# Altium schematic symbol library MY.SchLib: 652 symbols (part 1 of 7)
Pins are listed as number, name and electrical type; pins without a type are passive.

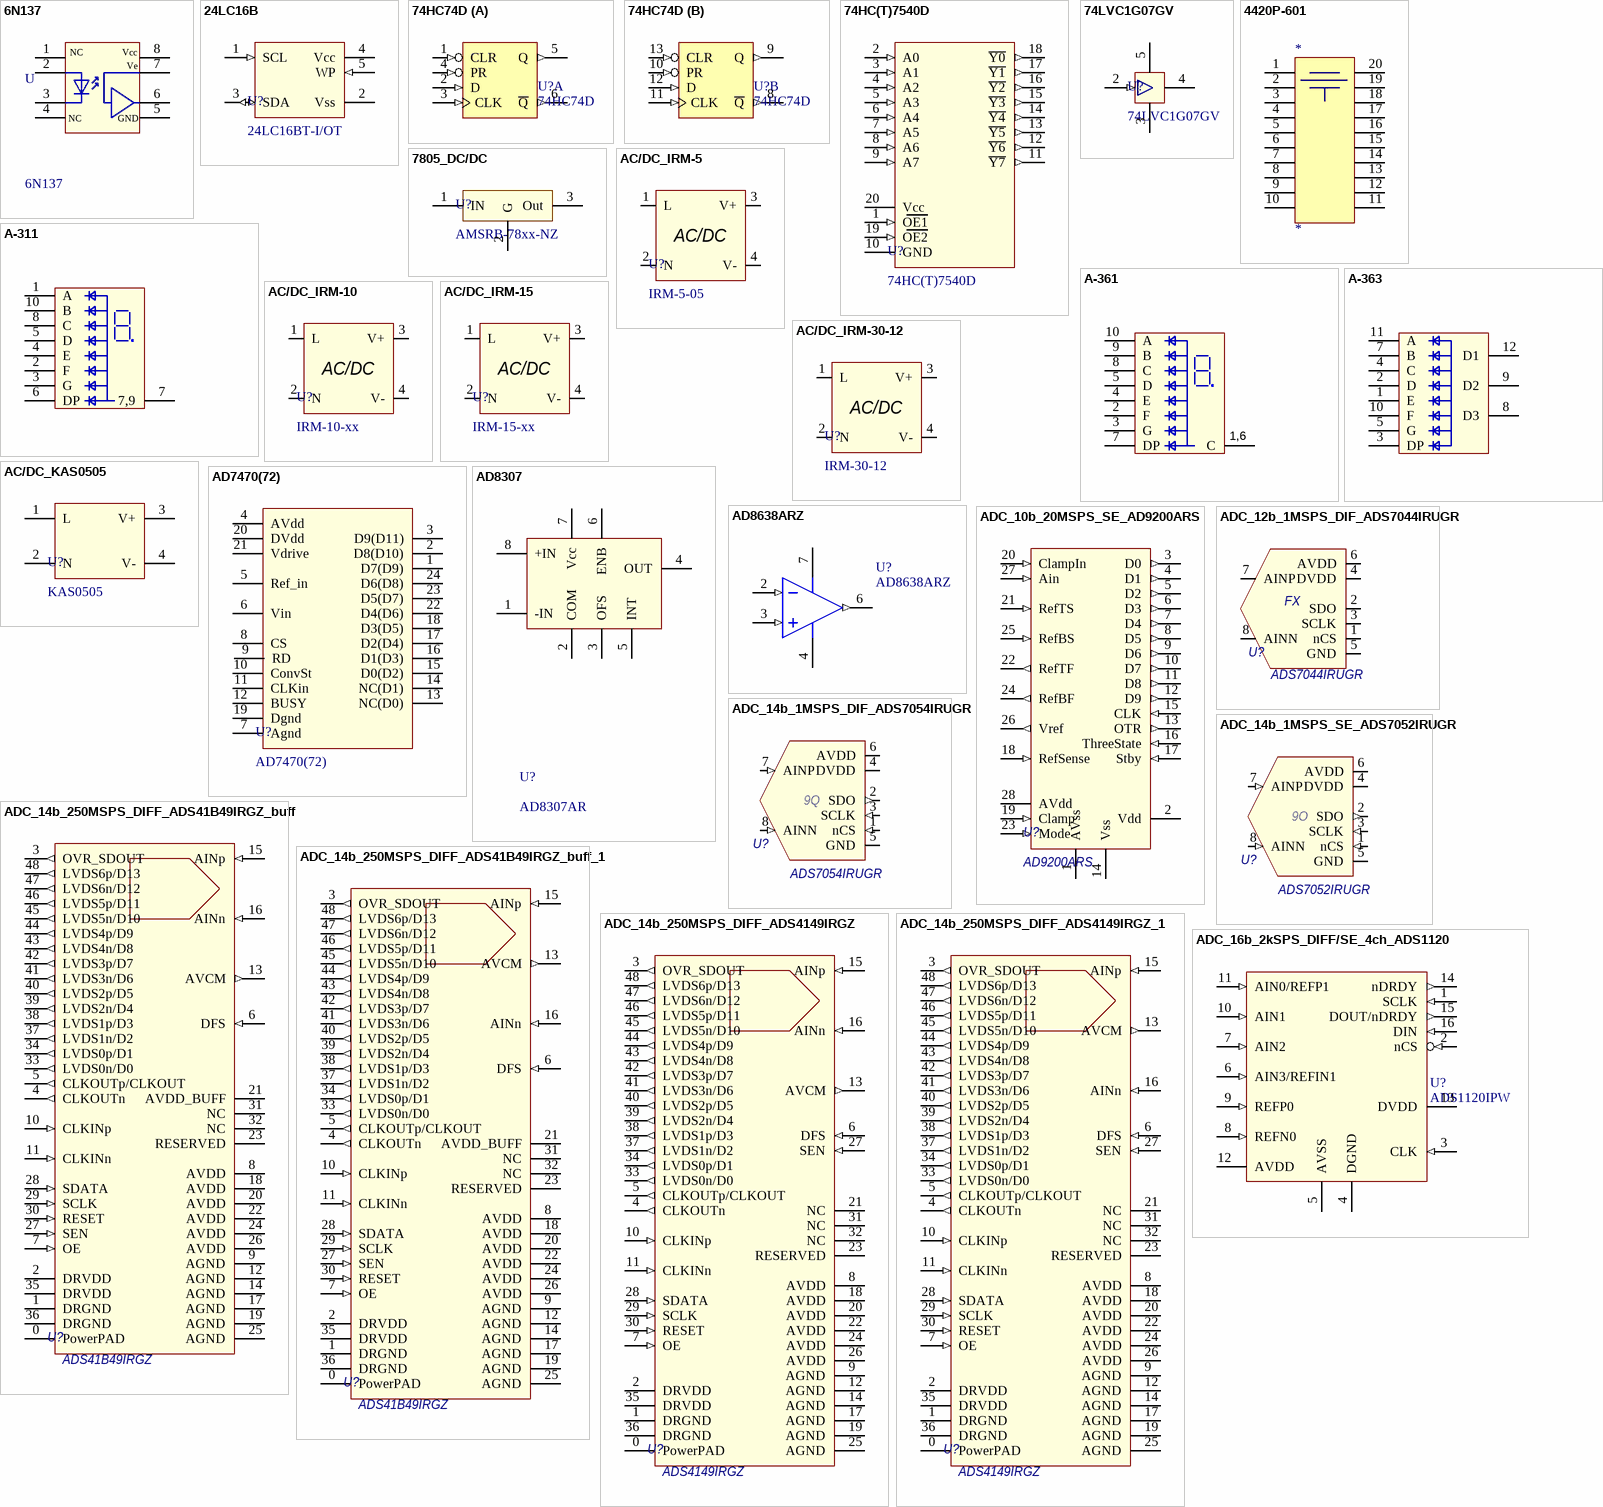
[diagram p0: symbols 6N137 to ADC_16b_2kSPS_DIFF/SE_4ch_ADS1120]

## 6N137
designator U
HelpURL: sdfs
footprint DIP8
pins: 1 NC, 2 A, 3 C, 4 NC, 5 GND, 6 NC, 7 NC, 8 Vcc
text: Ve

## 24LC16B
designator U?, comment 24LC16BT-I/OT
footprint SOT23-5
pins: 1 SCL (in), 2 Vss (power), 3 SDA (io), 4 Vcc (power), 5 WP (in)

## 74HC74D
designator U?
Dual D-Type Flip-Flop with Preset and Clear; Published: 8-Jun-2000; LatestRevisionDate: 13-Apr-2006; LatestRevisionNote: IPC-7351 Footprint Added.; DatasheetVersion: Oct-1992; PackageVersion: Sep-1998; PackageReference: SO14; Publisher: Altium Limited; PackageDescription: 14-Pin Small Outline Integrated Circuit 1.27 mm Pitch; Code_IPC: SOIC127P600-14; ComponentLink1Description: Manufacturer Link; ComponentLink1URL: http://www.st.com/; ComponentLink2Description: Datasheet; ComponentLink2URL: http://www.st.com/stonline/products/literature/ds/2000/m74hc74.pdf; HelpURL: L:\Dev\Техническая документация\Логика\Триггеры\RS&D\sn74hc74.pdf; Price, $: 0.1
footprint SO14
pins on every part: 7 GND (power) hidden to GND, 14 VCC (power) hidden to VCC
part A pins: 1 CLR (in), 2 D (in), 3 CLK (in), 4 PR (in), 5 Q (out), 6 ~{Q} (out)
part B pins: 8 ~{Q} (out), 9 Q (out), 10 PR (in), 11 CLK (in), 12 D (in), 13 CLR (in)

## 74HC(T)7540D
designator U?
footprint SO20
pins: 1 OE1 (in), 2 A0 (in), 3 A1 (in), 4 A2 (in), 5 A3 (in), 6 A4 (in), 7 A5 (in), 8 A6 (in), 9 A7 (in), 10 GND (power), 11 ~{Y7} (out), 12 ~{Y6} (out), 13 ~{Y5} (out), 14 ~{Y4} (out), 15 ~{Y3} (out), 16 ~{Y2} (out), 17 ~{Y1} (out), 18 ~{Y0} (out), 19 OE2 (in), 20 Vcc (power)

## 74LVC1G07GV
designator U?
footprint SOT23-5
pins: 2 A (in), 3 GND (power), 4 Y (oc), 5 Vcc (power)

## 4420P-601
designator *
footprint SOJ20
pins: 1, 2, 3, 4, 5, 6, 7, 8, 9, 10, 11, 12, 13, 14, 15, 16, 17, 18, 19, 20

## 7805_DC/DC
designator U?, comment AMSRB-78xx-NZ
Analog: K78xx-500 (Morsun), PSR-78xxLF(Peak)
footprint SIP3
pins: 1 IN, 2 G, 3 Out

## A-311
designator DD?
footprint A/C-311
pins: 1 A, 2 F, 3 G, 4 E, 5 D, 6 DP, 7 A, 8 C, 9 7,9, 10 B

## A-361
designator DD?
footprint A/C-361
pins: 1 C, 2 F, 3 G, 4 E, 5 D, 6 C, 7 DP, 8 C, 9 B, 10 A
text: 1,6

## A-363
designator DD?
footprint A/C-363
pins: 1 E, 2 D, 3 DP, 4 C, 5 G, 7 B, 8 D3, 9 D2, 10 F, 11 A, 12 D1

## AC/DC_IRM-5
designator U?, comment IRM-5-05
footprint AC/DC_IRM-5(10)
pins: 1 L (power), 2 N (power), 3 V+ (power), 4 V- (power)
text: AC/DC

## AC/DC_IRM-10
designator U?, comment IRM-10-xx
footprint AC/DC_IRM-5(10)
pins: 1 L (power), 2 N (power), 3 V+ (power), 4 V- (power)
text: AC/DC

## AC/DC_IRM-15
designator U?, comment IRM-15-xx
footprint AC/DC_IRM-15
pins: 1 L (power), 2 N (power), 3 V+ (power), 4 V- (power)
text: AC/DC

## AC/DC_IRM-30-12
designator U?, comment IRM-30-12
Price, $: 10; HelpURL: L:\Dev\Техническая документация\AC_DC\MeanWell\IRM-30.PDF
footprint AC/DC_IRM-30
pins: 1 L (power), 2 N (power), 3 V+ (power), 4 V- (power)
text: AC/DC

## AC/DC_KAS0505
designator U?, comment KAS0505
Analog: VSK-S5-5UA; CcmponentLink1Description: Analog; HelpURL: L:\Dev\Техническая документация\AC_DC\CHINFA\chinfa~kas05.pdf; ComponentLink1URL: L:\Dev\Техническая документация\AC_DC\CUIINK\vsk-v5.pdf
footprint AC/DC_KAS05xx
pins: 1 L (power), 2 N (power), 3 V+ (power), 4 V- (power)

## AD7470(72)
designator U?
footprint SO24
pins: 1 D7(D9), 2 D8(D10), 3 D9(D11), 4 AVdd, 5 Ref_in, 6 Vin, 7 Agnd, 8 CS, 9 RD, 10 ConvSt, 11 CLKin, 12 BUSY, 13 NC(D0), 14 NC(D1), 15 D0(D2), 16 D1(D3), 17 D2(D4), 18 D3(D5), 19 Dgnd, 20 DVdd, 21 Vdrive, 22 D4(D6), 23 D5(D7), 24 D6(D8)

## AD8307
designator U?, comment AD8307AR
footprint SO8
pins: 1 -IN (power), 2 COM (power), 3 OFS (power), 4 OUT (power), 5 INT (power), 6 ENB (power), 7 Vcc (power), 8 +IN (power)

## AD8638ARZ
designator U?
5-16V, 1.3mA, 1.5MHz Rail-to-Rail O Amplifier; Published: 8-Jun-2000; LatestRevisionDate: 04-Mar-2005; LatestRevisionNote: Stylized 3D Model Added.; DatasheetVersion: REV. A; PackageVersion: 1998; PackageReference: Q-8; Publisher: Altium Limited; PackageDescription: DIP; 8 Leads; Row Spacing 7.62 mm; Pitch 2.54 mm; ComponentLink1Description: Manufacturer Link; ComponentLink1URL: http://www.analog.com/
footprint SO8
3D model Q-8 (DIP; 8 Leads; Row Spacing 7.62 mm; Pitch 2.54 mm)
simulation model AD9618 (SUBCKT)
pins: 1 NC hidden, 2 IN- (in), 3 IN+ (in), 4 V- (power), 5 V- (power) hidden, 6 OUT (out), 7 V+ (power), 8 V+ hidden

## ADC_10b_20MSPS_SE_AD9200ARS
designator U?, comment AD9200ARS
HelpURL: L:\Dev\Техническая документация\ADC\20MSPS\10bit\AD9200.pdf
footprint SSOP28
pins: 1 AVss (power), 2 Vdd (power), 3 D0 (out), 4 D1 (out), 5 D2 (out), 6 D3 (out), 7 D4 (out), 8 D5 (out), 9 D6 (out), 10 D7 (out), 11 D8 (out), 12 D9 (out), 13 OTR (out), 14 Vss (power), 15 CLK (in), 16 ThreeState (in), 17 Stby (in), 18 RefSense (in), 19 Clamp (in), 20 ClampIn (in), 21 RefTS (in), 22 RefTF (out), 23 Mode (in), 24 RefBF (out), 25 RefBS (in), 26 Vref (out), 27 Ain (in), 28 AVdd (power)

## ADC_12b_1MSPS_DIF_ADS7044IRUGR
designator U?, comment value ADS7044IRUGR  (hidden comment: ADS7044IRUGR, TI)
HelpURL: L:\Dev\Техническая документация\ADC\12bit\ads7044_TI.pdf
footprint X2QFN8
pins: 1 nCS (power), 2 SDO (power), 3 SCLK (power), 4 DVDD (power), 5 GND (power), 6 AVDD (power), 7 AINP (power), 8 AINN (power)
text: FX

## ADC_14b_1MSPS_DIF_ADS7054IRUGR
designator U?, comment value ADS7054IRUGR  (hidden comment: ADS7054IRUGR, TI)
HelpURL: L:\Dev\Техническая документация\ADC\14bit\ads7054_TI.pdf
footprint X2QFN8
pins: 1 nCS (in), 2 SDO (out), 3 SCLK (in), 4 DVDD (power), 5 GND (power), 6 AVDD (power), 7 AINP (in), 8 AINN (in)
text: 9Q

## ADC_14b_1MSPS_SE_ADS7052IRUGR
designator U?, comment value ADS7052IRUGR  (hidden comment: ADS7052IRUGR, TI)
HelpURL: L:\Dev\Техническая документация\ADC\14bit\ads7052_TI_14b_1MHz_SE.pdf
footprint X2QFN8
pins: 1 nCS (in), 2 SDO (out), 3 SCLK (in), 4 DVDD (power), 5 GND (power), 6 AVDD (power), 7 AINP (in), 8 AINN (in)
text: 9O

## ADC_14b_250MSPS_DIFF_ADS41B49IRGZ_buff
designator U?, comment value ADS41B49IRGZ  (hidden comment: ADS41B49IRGZ_TI)
HelpURL: L:\Dev\Техническая документация\ADC\14bit\ads41b49_14b_250MHz_buff.pdf
footprint PVQFN-N48_TI
pins: 0 PowerPAD, 1 DRGND (power), 2 DRVDD (power), 3 OVR_SDOUT (out), 4 CLKOUTn (out), 5 CLKOUTp/CLKOUT (out), 6 DFS (in), 7 OE (in), 8 AVDD (power), 9 AGND (power), 10 CLKINp (in), 11 CLKINn (in), 12 AGND (power), 13 AVCM (out), 14 AGND (power), 15 AINp (in), 16 AINn (in), 17 AGND (power), 18 AVDD (power), 19 AGND (power), 20 AVDD (power), 21 AVDD_BUFF (power), 22 AVDD (power), 23 RESERVED, 24 AVDD (power), 25 AGND (power), 26 AVDD (power), 27 SEN (in), 28 SDATA (in), 29 SCLK (in), 30 RESET (in), 31 NC, 32 NC, 33 LVDS0n/D0 (out), 34 LVDS0p/D1 (out), 35 DRVDD (power), 36 DRGND (power), 37 LVDS1n/D2 (out), 38 LVDS1p/D3 (out), 39 LVDS2n/D4 (out), 40 LVDS2p/D5 (out), 41 LVDS3n/D6 (out), 42 LVDS3p/D7 (out), 43 LVDS4n/D8 (out), 44 LVDS4p/D9 (out), 45 LVDS5n/D10 (out), 46 LVDS5p/D11 (out), 47 LVDS6n/D12 (out), 48 LVDS6p/D13 (out)

## ADC_14b_250MSPS_DIFF_ADS41B49IRGZ_buff_1
designator U?, comment value ADS41B49IRGZ  (hidden comment: ADS41B49IRGZ_TI)
HelpURL: L:\Dev\Техническая документация\ADC\14bit\ads41b49_14b_250MHz_buff.pdf
footprint PVQFN-N48_TI
pins: 0 PowerPAD, 1 DRGND (power), 2 DRVDD (power), 3 OVR_SDOUT (out), 4 CLKOUTn (out), 5 CLKOUTp/CLKOUT (out), 6 DFS (in), 7 OE (in), 8 AVDD (power), 9 AGND (power), 10 CLKINp (in), 11 CLKINn (in), 12 AGND (power), 13 AVCM (out), 14 AGND (power), 15 AINp (in), 16 AINn (in), 17 AGND (power), 18 AVDD (power), 19 AGND (power), 20 AVDD (power), 21 AVDD_BUFF (power), 22 AVDD (power), 23 RESERVED, 24 AVDD (power), 25 AGND (power), 26 AVDD (power), 27 SEN (in), 28 SDATA (in), 29 SCLK (in), 30 RESET (in), 31 NC, 32 NC, 33 LVDS0n/D0 (out), 34 LVDS0p/D1 (out), 35 DRVDD (power), 36 DRGND (power), 37 LVDS1n/D2 (out), 38 LVDS1p/D3 (out), 39 LVDS2n/D4 (out), 40 LVDS2p/D5 (out), 41 LVDS3n/D6 (out), 42 LVDS3p/D7 (out), 43 LVDS4n/D8 (out), 44 LVDS4p/D9 (out), 45 LVDS5n/D10 (out), 46 LVDS5p/D11 (out), 47 LVDS6n/D12 (out), 48 LVDS6p/D13 (out)

## ADC_14b_250MSPS_DIFF_ADS4149IRGZ
designator U?, comment value ADS4149IRGZ  (hidden comment: ADS4149IRGZ_TI)
HelpURL: L:\Dev\Техническая документация\ADC\14bit\ads4149_14b_250MHz.pdf
footprint PVQFN-N48_TI
pins: 0 PowerPAD, 1 DRGND (power), 2 DRVDD (power), 3 OVR_SDOUT (out), 4 CLKOUTn (out), 5 CLKOUTp/CLKOUT (out), 6 DFS (in), 7 OE (in), 8 AVDD (power), 9 AGND (power), 10 CLKINp (in), 11 CLKINn (in), 12 AGND (power), 13 AVCM (out), 14 AGND (power), 15 AINp (in), 16 AINn (in), 17 AGND (power), 18 AVDD (power), 19 AGND (power), 20 AVDD (power), 21 NC, 22 AVDD (power), 23 RESERVED, 24 AVDD (power), 25 AGND (power), 26 AVDD (power), 27 SEN (in), 28 SDATA (in), 29 SCLK (in), 30 RESET (in), 31 NC, 32 NC, 33 LVDS0n/D0 (out), 34 LVDS0p/D1 (out), 35 DRVDD (power), 36 DRGND (power), 37 LVDS1n/D2 (out), 38 LVDS1p/D3 (out), 39 LVDS2n/D4 (out), 40 LVDS2p/D5 (out), 41 LVDS3n/D6 (out), 42 LVDS3p/D7 (out), 43 LVDS4n/D8 (out), 44 LVDS4p/D9 (out), 45 LVDS5n/D10 (out), 46 LVDS5p/D11 (out), 47 LVDS6n/D12 (out), 48 LVDS6p/D13 (out)

## ADC_14b_250MSPS_DIFF_ADS4149IRGZ_1
designator U?, comment value ADS4149IRGZ  (hidden comment: ADS4149IRGZ_TI)
HelpURL: L:\Dev\Техническая документация\ADC\14bit\ads4149_14b_250MHz.pdf
footprint PVQFN-N48_TI
pins: 0 PowerPAD, 1 DRGND (power), 2 DRVDD (power), 3 OVR_SDOUT (out), 4 CLKOUTn (out), 5 CLKOUTp/CLKOUT (out), 6 DFS (in), 7 OE (in), 8 AVDD (power), 9 AGND (power), 10 CLKINp (in), 11 CLKINn (in), 12 AGND (power), 13 AVCM (out), 14 AGND (power), 15 AINp (in), 16 AINn (in), 17 AGND (power), 18 AVDD (power), 19 AGND (power), 20 AVDD (power), 21 NC, 22 AVDD (power), 23 RESERVED, 24 AVDD (power), 25 AGND (power), 26 AVDD (power), 27 SEN (in), 28 SDATA (in), 29 SCLK (in), 30 RESET (in), 31 NC, 32 NC, 33 LVDS0n/D0 (out), 34 LVDS0p/D1 (out), 35 DRVDD (power), 36 DRGND (power), 37 LVDS1n/D2 (out), 38 LVDS1p/D3 (out), 39 LVDS2n/D4 (out), 40 LVDS2p/D5 (out), 41 LVDS3n/D6 (out), 42 LVDS3p/D7 (out), 43 LVDS4n/D8 (out), 44 LVDS4p/D9 (out), 45 LVDS5n/D10 (out), 46 LVDS5p/D11 (out), 47 LVDS6n/D12 (out), 48 LVDS6p/D13 (out)

## ADC_16b_2kSPS_DIFF/SE_4ch_ADS1120
designator U?, comment ADS1120IPW
Current Supply: 1mA; HelpURL: L:\Dev\Техническая документация\ADC\AFE\Для датчиков температуры\ads1120.pdf
footprint TSSOP16
pins: 1 SCLK (in), 2 nCS (in), 3 CLK (in), 4 DGND (power), 5 AVSS (power), 6 AIN3/REFIN1 (in), 7 AIN2 (in), 8 REFN0 (in), 9 REFP0 (in), 10 AIN1 (in), 11 AIN0/REFP1 (in), 12 AVDD (power), 13 DVDD (power), 14 nDRDY (out), 15 DOUT/nDRDY (out), 16 DIN (in)

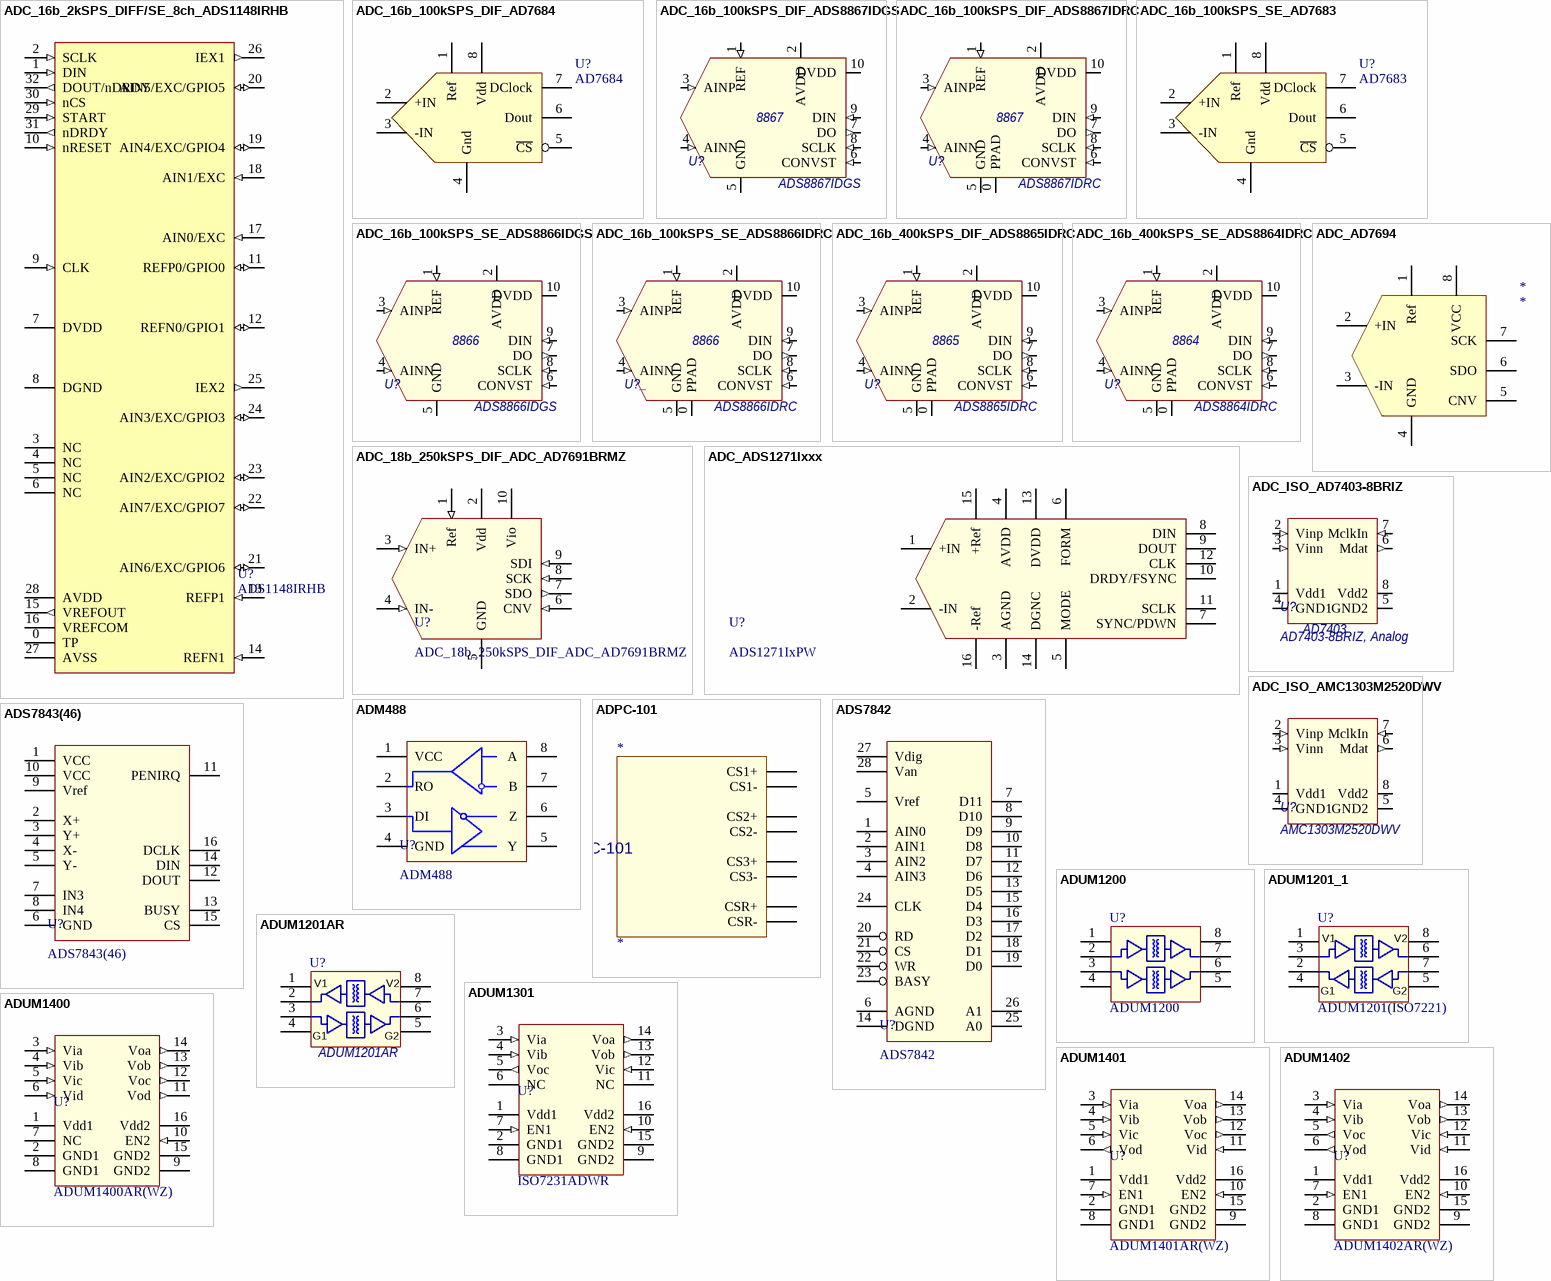
[diagram p1: symbols ADC_16b_2kSPS_DIFF/SE_8ch_ADS1148IRHB to ADUM1402]

## ADC_16b_2kSPS_DIFF/SE_8ch_ADS1148IRHB
designator U?, comment ADS1148IRHB
Current Supply: 1mA; HelpURL: L:\Dev\Техническая документация\ADC\AFE\Для датчиков температуры\16b_2kSPS_8ch_ads1148.pdf
footprint S-PVQFN-N32
pins: 0 TP, 1 DIN (in), 2 SCLK (in), 3 NC, 4 NC, 5 NC, 6 NC, 7 DVDD (power), 8 DGND (power), 9 CLK (in), 10 nRESET (in), 11 REFP0/GPIO0 (io), 12 REFN0/GPIO1 (io), 13 REFP1 (in), 14 REFN1 (in), 15 VREFOUT (out), 16 VREFCOM (power), 17 AIN0/EXC (in), 18 AIN1/EXC (in), 19 AIN4/EXC/GPIO4 (io), 20 AIN5/EXC/GPIO5 (io), 21 AIN6/EXC/GPIO6 (io), 22 AIN7/EXC/GPIO7 (io), 23 AIN2/EXC/GPIO2 (io), 24 AIN3/EXC/GPIO3 (io), 25 IEX2 (out), 26 IEX1 (out), 27 AVSS (power), 28 AVDD (power), 29 START (in), 30 nCS (in), 31 nDRDY (out), 32 DOUT/nDRDY (out)

## ADC_16b_100kSPS_DIF_AD7684
designator U?, comment AD7684
footprint MSOP8
pins: 1 Ref, 2 +IN, 3 -IN, 4 Gnd, 5 ~{CS}, 6 Dout, 7 DClock, 8 Vdd

## ADC_16b_100kSPS_DIF_ADS8867IDGS
designator U?, comment value ADS8867IDGS  (hidden comment: ADS8867IDGS, TI)
HelpURL: L:\Dev\Техническая документация\ADC\16bit\ads8867_100kSPS_Diff_DaisyChain.pdf
footprint VSSOP10_0.5p_TI
pins: 1 REF (in), 2 AVDD (power), 3 AINP (in), 4 AINN (in), 5 GND (power), 6 CONVST (in), 7 DO (out), 8 SCLK (in), 9 DIN (in), 10 DVDD (power)
text: 8867

## ADC_16b_100kSPS_DIF_ADS8867IDRC
designator U?, comment value ADS8867IDRC  (hidden comment: ADS8867IDRC, TI)
HelpURL: L:\Dev\Техническая документация\ADC\16bit\ads8867_100kSPS_Diff_DaisyChain.pdf
footprint S-PVSON-N10_TI
pins: 0 PPAD, 1 REF (in), 2 AVDD (power), 3 AINP (in), 4 AINN (in), 5 GND (power), 6 CONVST (in), 7 DO (out), 8 SCLK (in), 9 DIN (in), 10 DVDD (power)
text: 8867

## ADC_16b_100kSPS_SE_AD7683
designator U?, comment AD7683
footprint MSOP8
pins: 1 Ref, 2 +IN, 3 -IN, 4 Gnd, 5 ~{CS}, 6 Dout, 7 DClock, 8 Vdd

## ADC_16b_100kSPS_SE_ADS8866IDGS
designator U?, comment value ADS8866IDGS  (hidden comment: ADS8866IDGS, TI)
HelpURL: L:\Dev\Техническая документация\ADC\16bit\ads8866_100kSPS_SE_DaisyChain.pdf
footprint VSSOP10_0.5p_TI
pins: 1 REF (in), 2 AVDD (power), 3 AINP (in), 4 AINN (in), 5 GND (power), 6 CONVST (in), 7 DO (out), 8 SCLK (in), 9 DIN (in), 10 DVDD (power)
text: 8866

## ADC_16b_100kSPS_SE_ADS8866IDRC
designator U?_, comment value ADS8866IDRC  (hidden comment: ADS8866IDRC, TI)
HelpURL: L:\Dev\Техническая документация\ADC\16bit\ads8866_100kSPS_SE_DaisyChain.pdf
footprint S-PVSON-N10_TI
pins: 0 PPAD, 1 REF (in), 2 AVDD (power), 3 AINP (in), 4 AINN (in), 5 GND (power), 6 CONVST (in), 7 DO (out), 8 SCLK (in), 9 DIN (in), 10 DVDD (power)
text: 8866

## ADC_16b_400kSPS_DIF_ADS8865IDRC
designator U?, comment value ADS8865IDRC  (hidden comment: ADS8865IDRC, TI)
HelpURL: L:\Dev\Техническая документация\ADC\16bit\ads8865_16b_400kSPS_diff.pdf
footprint S-PVSON-N10_TI
pins: 0 PPAD, 1 REF (in), 2 AVDD (power), 3 AINP (in), 4 AINN (in), 5 GND (power), 6 CONVST (in), 7 DO (out), 8 SCLK (in), 9 DIN (in), 10 DVDD (power)
text: 8865

## ADC_16b_400kSPS_SE_ADS8864IDRC
designator U?, comment value ADS8864IDRC  (hidden comment: ADS8864IDRC, TI)
HelpURL: L:\Dev\Техническая документация\ADC\16bit\ADS8864_16b_400kSPS_SE.pdf
footprint S-PVSON-N10_TI
pins: 0 PPAD, 1 REF (in), 2 AVDD (power), 3 AINP (in), 4 AINN (in), 5 GND (power), 6 CONVST (in), 7 DO (out), 8 SCLK (in), 9 DIN (in), 10 DVDD (power)
text: 8864

## ADC_18b_250kSPS_DIF_ADC_AD7691BRMZ
designator U?
ADC 18bit 250kHz
footprint MSOP10
pins: 1 Ref (in), 2 Vdd (power), 3 IN+ (in), 4 IN- (in), 5 GND (power), 6 CNV (in), 7 SDO (out), 8 SCK (in), 9 SDI (in), 10 Vio (power)

## ADC_AD7694
designator *
footprint MSOP8
pins: 1 Ref, 2 +IN, 3 -IN, 4 GND, 5 CNV, 6 SDO, 7 SCK, 8 VCC

## ADC_ADS1271Ixxx
designator U?, comment ADS1271IxPW
footprint TSSOP16
pins: 1 +IN (power), 2 -IN (power), 3 AGND (power), 4 AVDD (power), 5 MODE (power), 6 FORM (power), 7 SYNC/PDWN (power), 8 DIN (power), 9 DOUT (power), 10 DRDY/FSYNC (power), 11 SCLK (power), 12 CLK (power), 13 DVDD (power), 14 DGNC (power), 15 +Ref (power), 16 -Ref (power)

## ADC_ISO_AD7403-8BRIZ
designator U?, comment AD7403-8BRIZ, Analog  value AD7403
Vin_p-Vin_n: +-250mV; Analog: AMC1303M2520DWVR, TI; HelpURL: L:\Dev\Техническая документация\ADC\Isolate\AD7403_20MHz.pdf; ComponentLink1Description: AMC1303_datasheet; ComponentLink1URL: L:\Dev\Техническая документация\ADC\Isolate\amc1303m2520.pdf
footprint SO8-10.5-11.5mmx6.3mm
pins: 1 Vdd1 (power), 2 Vinp (in), 3 Vinn (in), 4 GND1 (power), 5 GND2 (power), 6 Mdat (out), 7 MclkIn (in), 8 Vdd2 (power)

## ADC_ISO_AMC1303M2520DWV
designator U?, comment value AMC1303M2520DWV  (hidden comment: AMC1303M2520DWV, TI)
Vin_p-Vin_n: +-250mV; HelpURL: L:\Dev\Техническая документация\ADC\Isolate\amc1303m2520.pdf
footprint SO8-10.5-11.5mmx6.3mm
pins: 1 Vdd1 (power), 2 Vinp (in), 3 Vinn (in), 4 GND1 (power), 5 GND2 (power), 6 Mdat (out), 7 MclkIn (in), 8 Vdd2 (power)

## ADM488
designator U?
footprint SO8
pins: 1 VCC, 2 RO, 3 DI, 4 GND, 5 Y, 6 Z, 7 B, 8 A

## ADPC-101
designator *
pins: 1 CS1+, 2 CS1-, 3 CS2-, 4 CS2+, 5 CS3+, 6 CS3-, 7 CSR+, 8 CSR-

## ADS7842
designator U?
pins: 1 AIN0, 2 AIN1, 3 AIN2, 4 AIN3, 5 Vref, 6 AGND, 7 D11, 8 D10, 9 D9, 10 D8, 11 D7, 12 D6, 13 D5, 14 DGND, 15 D4, 16 D3, 17 D2, 18 D1, 19 D0, 20 RD, 21 CS, 22 WR, 23 BASY, 24 CLK, 25 A0, 26 A1, 27 Vdig, 28 Van

## ADS7843(46)
designator U?
footprint SSOP16
pins: 1 VCC, 2 X+, 3 Y+, 4 X-, 5 Y-, 6 GND, 7 IN3, 8 IN4, 9 Vref, 10 VCC, 11 PENIRQ, 12 DOUT, 13 BUSY, 14 DIN, 15 CS, 16 DCLK

## ADUM1200
designator U?
HelpURL: L:\Dev\Техническая документация\Изоляторы\Analog\ADuM1200_1201.pdf
footprint SO8
pins: 1 +Vdd1, 2 +Vi1, 3 +Vi2, 4 G1, 5 G2, 6 Vo2, 7 Vo1, 8 Vdd2

## ADUM1201_1
designator U?, comment ADUM1201(ISO7221)
footprint SO8
pins: 1 +V1, 2 +Vi1, 3 +Vi2, 4 G1, 5 G2, 6 Vo2, 7 Vo1, 8 Vdd2
text: V1; V2

## ADUM1201AR
designator U?, comment value ADUM1201AR  (hidden comment: ADUM1201AR(Z), Analog)
HelpURL: L:\Dev\Техническая документация\Изоляторы\Analog\ADuM1200_1201.pdf
footprint SO8
pins: 1 +V1, 2 +Vi1, 3 +Vi2, 4 G1, 5 G2, 6 Vo2, 7 Vo1, 8 Vdd2
text: V1; V2

## ADUM1301
designator U?, comment ISO7231ADWR
footprint SOW16
pins: 1 Vdd1 (power), 2 GND1 (power), 3 Via (in), 4 Vib (in), 5 Voc (out), 6 NC, 7 EN1 (in), 8 GND1 (power), 9 GND2 (power), 10 EN2 (in), 11 NC, 12 Vic (in), 13 Vob (out), 14 Voa (out), 15 GND2 (power), 16 Vdd2 (power)

## ADUM1400
designator U?, comment ADUM1400AR(WZ)
footprint SOW16
pins: 1 Vdd1 (power), 2 GND1 (power), 3 Via (in), 4 Vib (in), 5 Vic (in), 6 Vid (in), 7 NC, 8 GND1 (power), 9 GND2 (power), 10 EN2 (in), 11 Vod (out), 12 Voc (out), 13 Vob (out), 14 Voa (out), 15 GND2 (power), 16 Vdd2 (power)

## ADUM1401
designator U?, comment ADUM1401AR(WZ)
footprint SOW16
pins: 1 Vdd1 (power), 2 GND1 (power), 3 Via (in), 4 Vib (in), 5 Vic (in), 6 Vod (out), 7 EN1 (in), 8 GND1 (power), 9 GND2 (power), 10 EN2 (in), 11 Vid (in), 12 Voc (out), 13 Vob (out), 14 Voa (out), 15 GND2 (power), 16 Vdd2 (power)

## ADUM1402
designator U?, comment ADUM1402AR(WZ)
footprint SOW16
pins: 1 Vdd1 (power), 2 GND1 (power), 3 Via (in), 4 Vib (in), 5 Voc (out), 6 Vod (out), 7 EN1 (in), 8 GND1 (power), 9 GND2 (power), 10 EN2 (in), 11 Vid (in), 12 Vic (in), 13 Vob (out), 14 Voa (out), 15 GND2 (power), 16 Vdd2 (power)

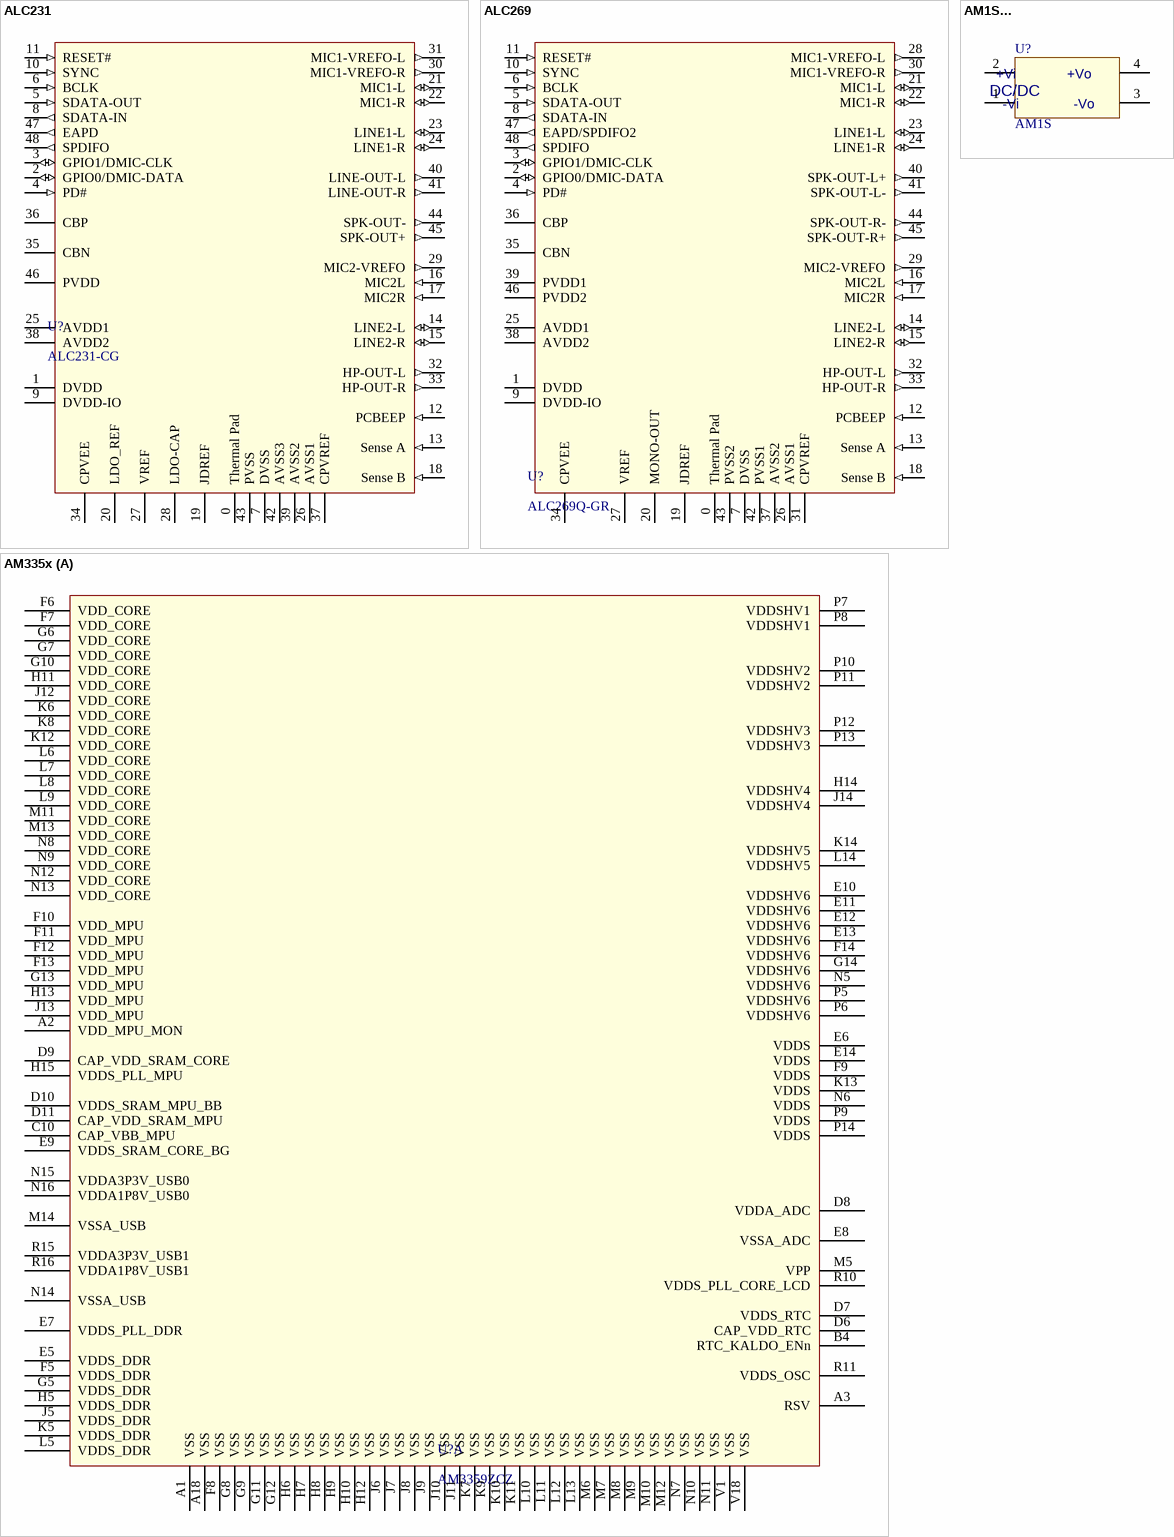
[diagram p2: symbols ALC231 to AM335x]

## ALC231
designator U?, comment ALC231-CG
HD Audio Codec
footprint QFN48_small
pins: 0 Thermal Pad (power) "Power", 1 DVDD (power) "Power", 2 GPIO0/DMIC-DATA (io) "GPIO0/DATAOut for Digit mic", 3 GPIO1/DMIC-CLK (io) "GPIO1/CLK Out for Digit mic", 4 PD# (in) "Power Down Class-D Amp", 5 SDATA-OUT (in) "Serial TDM Data Input", 6 BCLK (in) "24MHz Bit Clock Input", 7 DVSS (power) "Power", 8 SDATA-IN (out) "Serial TDM Data Output", 9 DVDD-IO (power) "Power", 10 SYNC (in) "Sample Sync (48kHz)", 11 RESET# (in) "H/W Reset Control", 12 PCBEEP (in) "Ext PCBEEP Input", 13 Sense A (in) "Jack Detect Pin 1", 14 LINE2-L (io) "Line In Left chanel", 15 LINE2-R (io) "Line In Right chanel", 16 MIC2L (in), 17 MIC2R (in), 18 Sense B (in) "Jack Detect Pin 2", 19 JDREF "Ref Resistor for Jeck detect", 20 LDO_REF "2.5V ref", 21 MIC1-L (io) "Stereo Mic Left ch", 22 MIC1-R (io) "Stereo Mic Right ch", 23 LINE1-L (io) "Line IN", 24 LINE1-R (io) "Line IN", 25 AVDD1 (power) "Power", 26 AVSS1 (power) "Power", 27 VREF "0.5*LDO_OUT of Ref Voltage", 28 LDO-CAP (power) "LDO Out  Ref for Integrated Reg", 29 MIC2-VREFO (out) "BIas Voltage for MIC2 Jack", 30 MIC1-VREFO-R (out) "Second Bias for MIC1", 31 MIC1-VREFO-L (out) "Bias for MIC1", 32 HP-OUT-L (out) "Headphone out", 33 HP-OUT-R (out) "Headphone out", 34 CPVEE (power) "Ref Voltage Out", 35 CBN (power) "Ref Capacitor", 36 CBP (power) "Ref Capacitor", 37 CPVREF (power) "0V Ref Voltage", 38 AVDD2 (power) "Power", 39 AVSS2 (power) "Power", 40 LINE-OUT-L (out) "Line Out", 41 LINE-OUT-R (out) "Line Out", 42 AVSS3 (power) "Power", 43 PVSS (power) "Power", 44 SPK-OUT- (out) "Mono SPK Amp", 45 SPK-OUT+ (out) "Mono SPK Amp", 46 PVDD (power) "Power", 47 EAPD (out) "Signal to Power Down Ext Amp", 48 SPDIFO (out) "SPDIF Output"

## ALC269
designator U?, comment ALC269Q-GR
HD Audio Codec
footprint QFN48_small
pins: 0 Thermal Pad (power) "Power", 1 DVDD (power) "Power", 2 GPIO0/DMIC-DATA (io) "GPIO0/DATAOut for Digit mic", 3 GPIO1/DMIC-CLK (io) "GPIO1/CLK Out for Digit mic", 4 PD# (in) "Power Down Class-D Amp", 5 SDATA-OUT (in) "Serial TDM Data Input", 6 BCLK (in) "24MHz Bit Clock Input", 7 DVSS (power) "Power", 8 SDATA-IN (out) "Serial TDM Data Output", 9 DVDD-IO (power) "Power", 10 SYNC (in) "Sample Sync (48kHz)", 11 RESET# (in) "H/W Reset Control", 12 PCBEEP (in) "Ext PCBEEP Input", 13 Sense A (in) "Jack Detect Pin 1", 14 LINE2-L (io) "Line In Left chanel", 15 LINE2-R (io) "Line In Right chanel", 16 MIC2L (in), 17 MIC2R (in), 18 Sense B (in) "Jack Detect Pin 2", 19 JDREF "Ref Resistor for Jeck detect", 20 MONO-OUT "2.5V ref", 21 MIC1-L (io) "Stereo Mic Left ch", 22 MIC1-R (io) "Stereo Mic Right ch", 23 LINE1-L (io) "Line IN", 24 LINE1-R (io) "Line IN", 25 AVDD1 (power) "Power", 26 AVSS1 (power) "Power", 27 VREF "0.5*LDO_OUT of Ref Voltage", 28 MIC1-VREFO-L (out) "Bias for MIC1", 29 MIC2-VREFO (out) "BIas Voltage for MIC2 Jack", 30 MIC1-VREFO-R (out) "Second Bias for MIC1", 31 CPVREF (power) "0V Ref Voltage", 32 HP-OUT-L (out) "Headphone out", 33 HP-OUT-R (out) "Headphone out", 34 CPVEE (power) "Ref Voltage Out", 35 CBN (power) "Ref Capacitor", 36 CBP (power) "Ref Capacitor", 37 AVSS2 (power) "LDO Out  Ref for Integrated Reg", 38 AVDD2 (power) "Power", 39 PVDD1 (power) "Power", 40 SPK-OUT-L+ (out) "Line Out", 41 SPK-OUT-L- (out) "Line Out", 42 PVSS1 (power) "Power", 43 PVSS2 (power) "Power", 44 SPK-OUT-R- (out) "Mono SPK Amp", 45 SPK-OUT-R+ (out) "Mono SPK Amp", 46 PVDD2 (power) "Power", 47 EAPD/SPDIFO2 (out) "Signal to Power Down Ext Amp", 48 SPDIFO (out) "SPDIF Output"

## AM1S...
designator U?, comment AM1S
footprint SIP4
pins: 1, 2, 3, 4
text: +Vi; +Vo; DC/DC; -Vi; -Vo

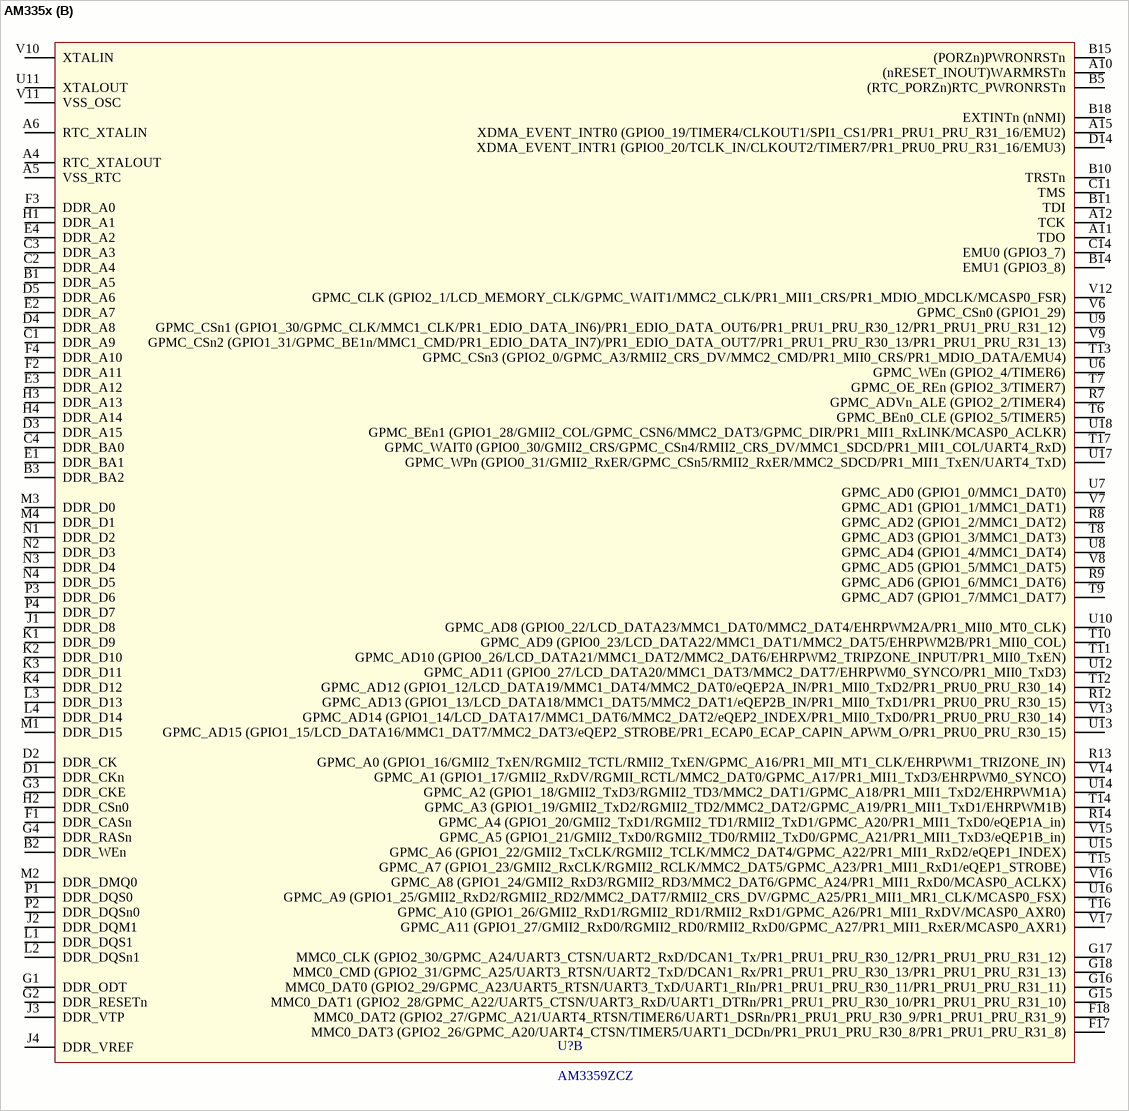
[diagram p3: symbol AM335x]

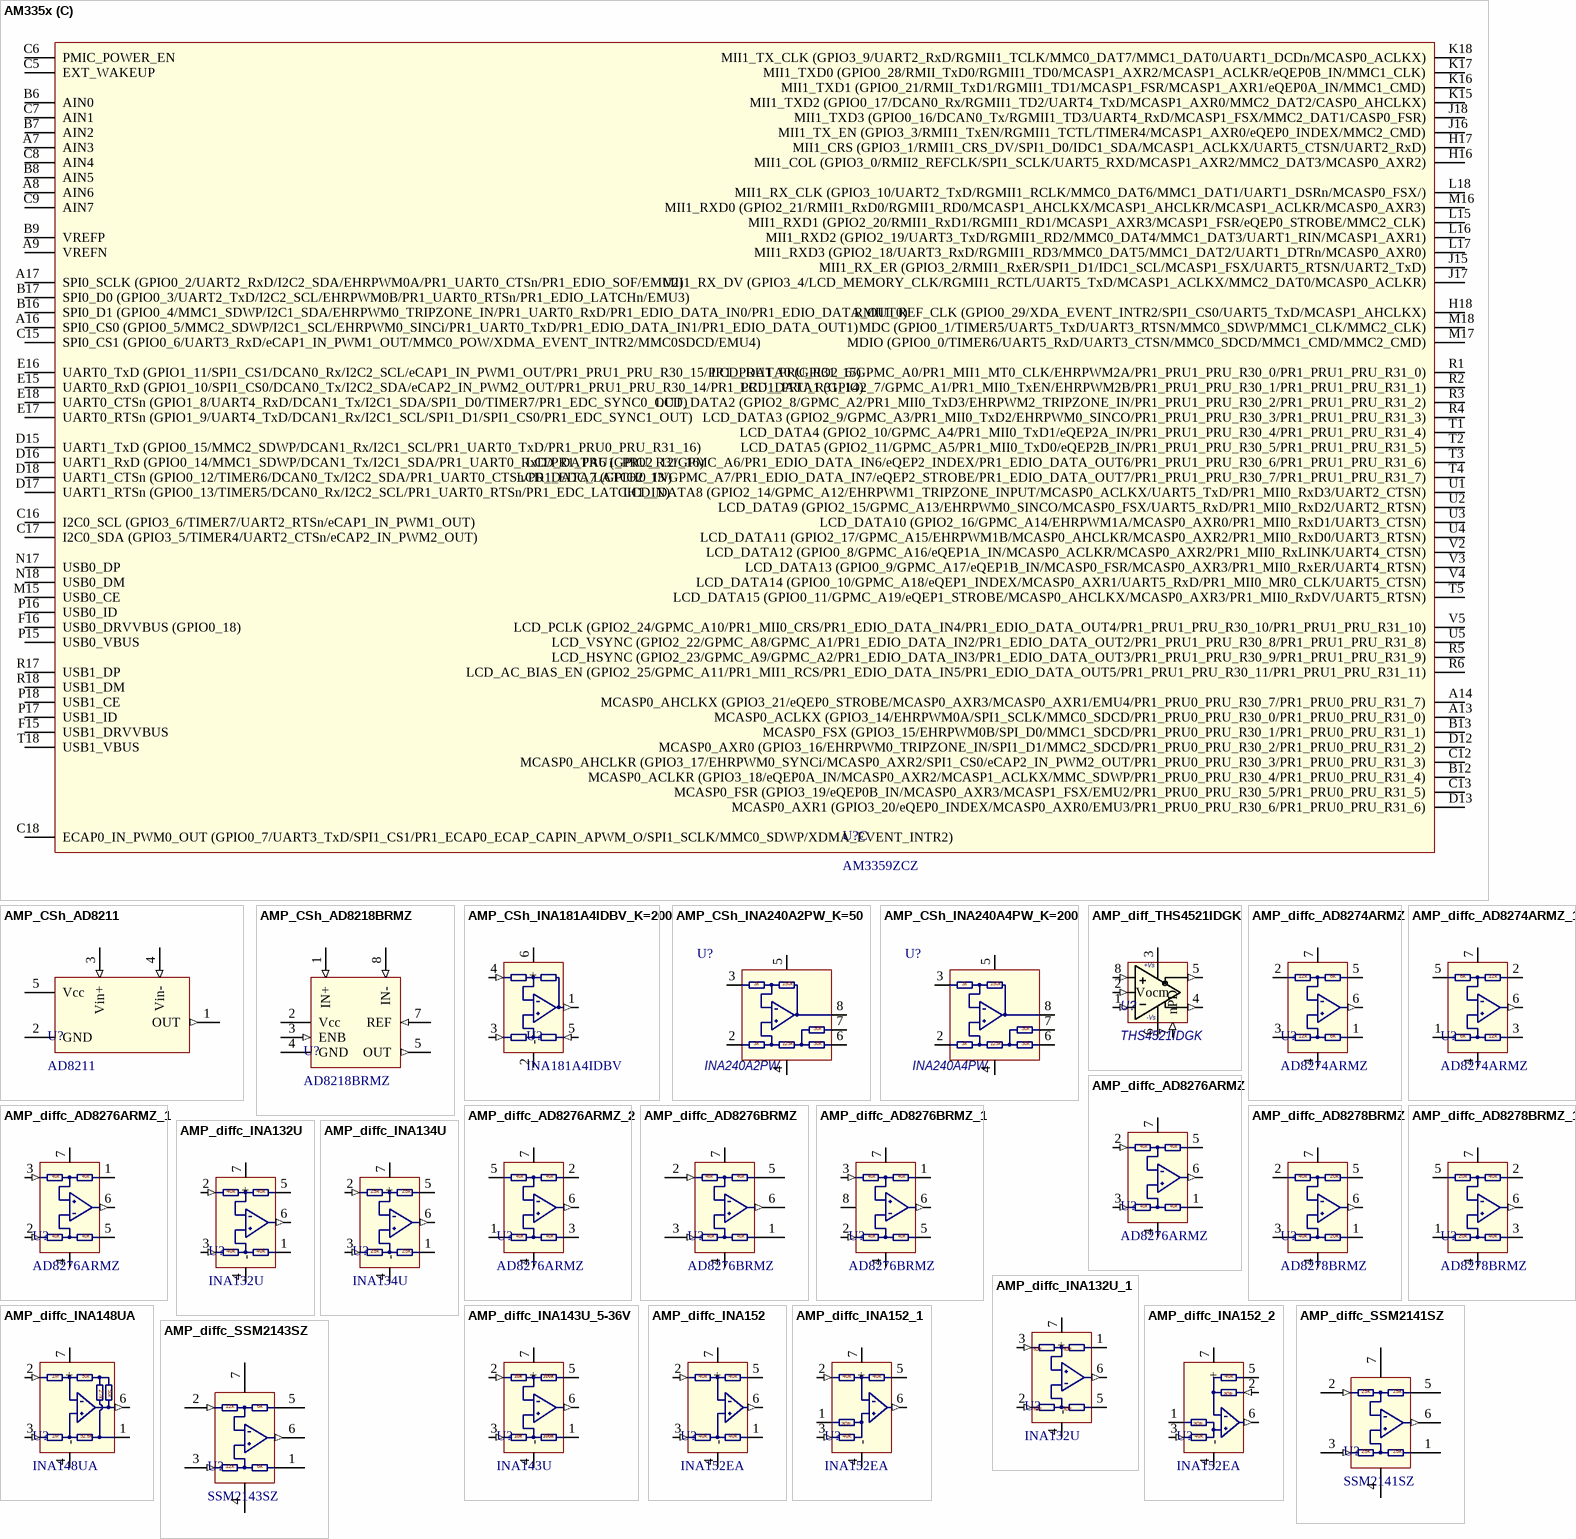
[diagram p4: symbols AM335x to AMP_diffc_SSM2143SZ]

## AM335x
designator U?, comment AM3359ZCZ
footprint BGA15X15-324-55M
part A pins: A1 VSS (power), A2 VDD_MPU_MON (power), A3 RSV (power), A18 VSS (power), B4 RTC_KALDO_ENn (power), C10 CAP_VBB_MPU (power), D6 CAP_VDD_RTC (power), D7 VDDS_RTC (power), D8 VDDA_ADC (power), D9 CAP_VDD_SRAM_CORE (power), D10 VDDS_SRAM_MPU_BB (power), D11 CAP_VDD_SRAM_MPU (power), E5 VDDS_DDR (power), E6 VDDS (power), E7 VDDS_PLL_DDR (power), E8 VSSA_ADC (power), E9 VDDS_SRAM_CORE_BG (power), E10 VDDSHV6 (power), E11 VDDSHV6 (power), E12 VDDSHV6 (power), E13 VDDSHV6 (power), E14 VDDS (power), F5 VDDS_DDR (power), F6 VDD_CORE (power), F7 VDD_CORE (power), F8 VSS (power), F9 VDDS (power), F10 VDD_MPU (power), F11 VDD_MPU (power), F12 VDD_MPU (power), F13 VDD_MPU (power), F14 VDDSHV6 (power), G5 VDDS_DDR (power), G6 VDD_CORE (power), G7 VDD_CORE (power), G8 VSS (power), G9 VSS (power), G10 VDD_CORE (power), G11 VSS (power), G12 VSS (power), G13 VDD_MPU (power), G14 VDDSHV6 (power), H5 VDDS_DDR (power), H6 VSS (power), H7 VSS (power), H8 VSS (power), H9 VSS (power), H10 VSS (power), H11 VDD_CORE (power), H12 VSS (power), H13 VDD_MPU (power), H14 VDDSHV4 (power), H15 VDDS_PLL_MPU (power), J5 VDDS_DDR (power), J6 VSS (power), J7 VSS (power), J8 VSS (power), J9 VSS (power), J10 VSS (power), J11 VSS (power), J12 VDD_CORE (power), J13 VDD_MPU (power), J14 VDDSHV4 (power), K5 VDDS_DDR (power), K6 VDD_CORE (power), K7 VSS (power), K8 VDD_CORE (power), K9 VSS (power), K10 VSS (power), K11 VSS (power), K12 VDD_CORE (power), K13 VDDS (power), K14 VDDSHV5 (power), L5 VDDS_DDR (power), L6 VDD_CORE (power), L7 VDD_CORE (power), L8 VDD_CORE (power), L9 VDD_CORE (power), L10 VSS (power), L11 VSS (power), L12 VSS (power), L13 VSS (power), L14 VDDSHV5 (power), M5 VPP (power), M6 VSS (power), M7 VSS (power), M8 VSS (power), M9 VSS (power), M10 VSS (power), M11 VDD_CORE (power), M12 VSS (power), M13 VDD_CORE (power), M14 VSSA_USB (power), N5 VDDSHV6 (power), N6 VDDS (power), N7 VSS (power), N8 VDD_CORE (power), N9 VDD_CORE (power), N10 VSS (power), N11 VSS (power), N12 VDD_CORE (power), N13 VDD_CORE (power), N14 VSSA_USB (power), N15 VDDA3P3V_USB0 (power), N16 VDDA1P8V_USB0 (power), P5 VDDSHV6 (power), P6 VDDSHV6 (power), P7 VDDSHV1 (power), P8 VDDSHV1 (power), P9 VDDS (power), P10 VDDSHV2 (power), P11 VDDSHV2 (power), P12 VDDSHV3 (power), P13 VDDSHV3 (power), P14 VDDS (power), R10 VDDS_PLL_CORE_LCD (power), R11 VDDS_OSC (power), R15 VDDA3P3V_USB1 (power), R16 VDDA1P8V_USB1 (power), V1 VSS (power), V18 VSS (power)
part B pins: A4 RTC_XTALOUT, A5 VSS_RTC, A6 RTC_XTALIN, A10 (nRESET_INOUT)WARMRSTn, A11 TDO, A12 TCK, A15 XDMA_EVENT_INTR0 (GPIO0_19/TIMER4/CLKOUT1/SPI1_CS1/PR1_PRU1_PRU_R31_16/EMU2), B1 DDR_A5, B2 DDR_WEn, B3 DDR_BA2, B5 (RTC_PORZn)RTC_PWRONRSTn, B10 TRSTn, B11 TDI, B14 EMU1 (GPIO3_8), B15 (PORZn)PWRONRSTn, B18 EXTINTn (nNMI), C1 DDR_A9, C2 DDR_A4, C3 DDR_A3, C4 DDR_BA0, C11 TMS, C14 EMU0 (GPIO3_7), D1 DDR_CKn, D2 DDR_CK, D3 DDR_A15, D4 DDR_A8, D5 DDR_A6, D14 XDMA_EVENT_INTR1 (GPIO0_20/TCLK_IN/CLKOUT2/TIMER7/PR1_PRU0_PRU_R31_16/EMU3), E1 DDR_BA1, E2 DDR_A7, E3 DDR_A12, E4 DDR_A2, F1 DDR_CASn, F2 DDR_A11, F3 DDR_A0, F4 DDR_A10, F17 MMC0_DAT3 (GPIO2_26/GPMC_A20/UART4_CTSN/TIMER5/UART1_DCDn/PR1_PRU1_PRU_R30_8/PR1_PRU1_PRU_R31_8), F18 MMC0_DAT2 (GPIO2_27/GPMC_A21/UART4_RTSN/TIMER6/UART1_DSRn/PR1_PRU1_PRU_R30_9/PR1_PRU1_PRU_R31_9), G1 DDR_ODT, G2 DDR_RESETn, G3 DDR_CKE, G4 DDR_RASn, G15 MMC0_DAT1 (GPIO2_28/GPMC_A22/UART5_CTSN/UART3_RxD/UART1_DTRn/PR1_PRU1_PRU_R30_10/PR1_PRU1_PRU_R31_10), G16 MMC0_DAT0 (GPIO2_29/GPMC_A23/UART5_RTSN/UART3_TxD/UART1_RIn/PR1_PRU1_PRU_R30_11/PR1_PRU1_PRU_R31_11), G17 MMC0_CLK (GPIO2_30/GPMC_A24/UART3_CTSN/UART2_RxD/DCAN1_Tx/PR1_PRU1_PRU_R30_12/PR1_PRU1_PRU_R31_12), G18 MMC0_CMD (GPIO2_31/GPMC_A25/UART3_RTSN/UART2_TxD/DCAN1_Rx/PR1_PRU1_PRU_R30_13/PR1_PRU1_PRU_R31_13), H1 DDR_A1, H2 DDR_CSn0, H3 DDR_A13, H4 DDR_A14, J1 DDR_D8, J2 DDR_DQM1, J3 DDR_VTP, J4 DDR_VREF, K1 DDR_D9, K2 DDR_D10, K3 DDR_D11, K4 DDR_D12, L1 DDR_DQS1, L2 DDR_DQSn1, L3 DDR_D13, L4 DDR_D14, M1 DDR_D15, M2 DDR_DMQ0, M3 DDR_D0, M4 DDR_D1, N1 DDR_D2, N2 DDR_D3, N3 DDR_D4, N4 DDR_D5, P1 DDR_DQS0, P2 DDR_DQSn0, P3 DDR_D6, P4 DDR_D7, R7 GPMC_ADVn_ALE (GPIO2_2/TIMER4), R8 GPMC_AD2 (GPIO1_2/MMC1_DAT2), R9 GPMC_AD6 (GPIO1_6/MMC1_DAT6), R12 GPMC_AD13 (GPIO1_13/LCD_DATA18/MMC1_DAT5/MMC2_DAT1/eQEP2B_IN/PR1_MII0_TxD1/PR1_PRU0_PRU_R30_15), R13 GPMC_A0 (GPIO1_16/GMII2_TxEN/RGMII2_TCTL/RMII2_TxEN/GPMC_A16/PR1_MII_MT1_CLK/EHRPWM1_TRIZONE_IN), R14 GPMC_A4 (GPIO1_20/GMII2_TxD1/RGMII2_TD1/RMII2_TxD1/GPMC_A20/PR1_MII1_TxD0/eQEP1A_in), T6 GPMC_BEn0_CLE (GPIO2_5/TIMER5), T7 GPMC_OE_REn (GPIO2_3/TIMER7), T8 GPMC_AD3 (GPIO1_3/MMC1_DAT3), T9 GPMC_AD7 (GPIO1_7/MMC1_DAT7), T10 GPMC_AD9 (GPIO0_23/LCD_DATA22/MMC1_DAT1/MMC2_DAT5/EHRPWM2B/PR1_MII0_COL), T11 GPMC_AD10 (GPIO0_26/LCD_DATA21/MMC1_DAT2/MMC2_DAT6/EHRPWM2_TRIPZONE_INPUT/PR1_MII0_TxEN), T12 GPMC_AD12 (GPIO1_12/LCD_DATA19/MMC1_DAT4/MMC2_DAT0/eQEP2A_IN/PR1_MII0_TxD2/PR1_PRU0_PRU_R30_14), T13 GPMC_CSn3 (GPIO2_0/GPMC_A3/RMII2_CRS_DV/MMC2_CMD/PR1_MII0_CRS/PR1_MDIO_DATA/EMU4), T14 GPMC_A3 (GPIO1_19/GMII2_TxD2/RGMII2_TD2/MMC2_DAT2/GPMC_A19/PR1_MII1_TxD1/EHRPWM1B), T15 GPMC_A7 (GPIO1_23/GMII2_RxCLK/RGMII2_RCLK/MMC2_DAT5/GPMC_A23/PR1_MII1_RxD1/eQEP1_STROBE), T16 GPMC_A10 (GPIO1_26/GMII2_RxD1/RGMII2_RD1/RMII2_RxD1/GPMC_A26/PR1_MII1_RxDV/MCASP0_AXR0), T17 GPMC_WAIT0 (GPIO0_30/GMII2_CRS/GPMC_CSn4/RMII2_CRS_DV/MMC1_SDCD/PR1_MII1_COL/UART4_RxD), U6 GPMC_WEn (GPIO2_4/TIMER6), U7 GPMC_AD0 (GPIO1_0/MMC1_DAT0), U8 GPMC_AD4 (GPIO1_4/MMC1_DAT4), U9 GPMC_CSn1 (GPIO1_30/GPMC_CLK/MMC1_CLK/PR1_EDIO_DATA_IN6)/PR1_EDIO_DATA_OUT6/PR1_PRU1_PRU_R30_12/PR1_PRU1_PRU_R31_12), U10 GPMC_AD8 (GPIO0_22/LCD_DATA23/MMC1_DAT0/MMC2_DAT4/EHRPWM2A/PR1_MII0_MT0_CLK), U11 XTALOUT, U12 GPMC_AD11 (GPIO0_27/LCD_DATA20/MMC1_DAT3/MMC2_DAT7/EHRPWM0_SYNCO/PR1_MII0_TxD3), U13 GPMC_AD15 (GPIO1_15/LCD_DATA16/MMC1_DAT7/MMC2_DAT3/eQEP2_STROBE/PR1_ECAP0_ECAP_CAPIN_APWM_O/PR1_PRU0_PRU_R30_15), U14 GPMC_A2 (GPIO1_18/GMII2_TxD3/RGMII2_TD3/MMC2_DAT1/GPMC_A18/PR1_MII1_TxD2/EHRPWM1A), U15 GPMC_A6 (GPIO1_22/GMII2_TxCLK/RGMII2_TCLK/MMC2_DAT4/GPMC_A22/PR1_MII1_RxD2/eQEP1_INDEX), U16 GPMC_A9 (GPIO1_25/GMII2_RxD2/RGMII2_RD2/MMC2_DAT7/RMII2_CRS_DV/GPMC_A25/PR1_MII1_MR1_CLK/MCASP0_FSX), U17 GPMC_WPn (GPIO0_31/GMII2_RxER/GPMC_CSn5/RMII2_RxER/MMC2_SDCD/PR1_MII1_TxEN/UART4_TxD), U18 GPMC_BEn1 (GPIO1_28/GMII2_COL/GPMC_CSN6/MMC2_DAT3/GPMC_DIR/PR1_MII1_RxLINK/MCASP0_ACLKR), V6 GPMC_CSn0 (GPIO1_29), V7 GPMC_AD1 (GPIO1_1/MMC1_DAT1), V8 GPMC_AD5 (GPIO1_5/MMC1_DAT5), V9 GPMC_CSn2 (GPIO1_31/GPMC_BE1n/MMC1_CMD/PR1_EDIO_DATA_IN7)/PR1_EDIO_DATA_OUT7/PR1_PRU1_PRU_R30_13/PR1_PRU1_PRU_R31_13), V10 XTALIN, V11 VSS_OSC, V12 GPMC_CLK (GPIO2_1/LCD_MEMORY_CLK/GPMC_WAIT1/MMC2_CLK/PR1_MII1_CRS/PR1_MDIO_MDCLK/MCASP0_FSR), V13 GPMC_AD14 (GPIO1_14/LCD_DATA17/MMC1_DAT6/MMC2_DAT2/eQEP2_INDEX/PR1_MII0_TxD0/PR1_PRU0_PRU_R30_14), V14 GPMC_A1 (GPIO1_17/GMII2_RxDV/RGMII_RCTL/MMC2_DAT0/GPMC_A17/PR1_MII1_TxD3/EHRPWM0_SYNCO), V15 GPMC_A5 (GPIO1_21/GMII2_TxD0/RGMII2_TD0/RMII2_TxD0/GPMC_A21/PR1_MII1_TxD3/eQEP1B_in), V16 GPMC_A8 (GPIO1_24/GMII2_RxD3/RGMII2_RD3/MMC2_DAT6/GPMC_A24/PR1_MII1_RxD0/MCASP0_ACLKX), V17 GPMC_A11 (GPIO1_27/GMII2_RxD0/RGMII2_RD0/RMII2_RxD0/GPMC_A27/PR1_MII1_RxER/MCASP0_AXR1)
part C pins: A7 AIN3, A8 AIN6, A9 VREFN, A13 MCASP0_ACLKX (GPIO3_14/EHRPWM0A/SPI1_SCLK/MMC0_SDCD/PR1_PRU0_PRU_R30_0/PR1_PRU0_PRU_R31_0), A14 MCASP0_AHCLKX (GPIO3_21/eQEP0_STROBE/MCASP0_AXR3/MCASP0_AXR1/EMU4/PR1_PRU0_PRU_R30_7/PR1_PRU0_PRU_R31_7), A16 SPI0_CS0 (GPIO0_5/MMC2_SDWP/I2C1_SCL/EHRPWM0_SINCi/PR1_UART0_TxD/PR1_EDIO_DATA_IN1/PR1_EDIO_DATA_OUT1), A17 SPI0_SCLK (GPIO0_2/UART2_RxD/I2C2_SDA/EHRPWM0A/PR1_UART0_CTSn/PR1_EDIO_SOF/EMU2), B6 AIN0, B7 AIN2, B8 AIN5, B9 VREFP, B12 MCASP0_ACLKR (GPIO3_18/eQEP0A_IN/MCASP0_AXR2/MCASP1_ACLKX/MMC_SDWP/PR1_PRU0_PRU_R30_4/PR1_PRU0_PRU_R31_4), B13 MCASP0_FSX (GPIO3_15/EHRPWM0B/SPI_D0/MMC1_SDCD/PR1_PRU0_PRU_R30_1/PR1_PRU0_PRU_R31_1), B16 SPI0_D1 (GPIO0_4/MMC1_SDWP/I2C1_SDA/EHRPWM0_TRIPZONE_IN/PR1_UART0_RxD/PR1_EDIO_DATA_IN0/PR1_EDIO_DATA_OUT0), B17 SPI0_D0 (GPIO0_3/UART2_TxD/I2C2_SCL/EHRPWM0B/PR1_UART0_RTSn/PR1_EDIO_LATCHn/EMU3), C5 EXT_WAKEUP, C6 PMIC_POWER_EN, C7 AIN1, C8 AIN4, C9 AIN7, C12 MCASP0_AHCLKR (GPIO3_17/EHRPWM0_SYNCi/MCASP0_AXR2/SPI1_CS0/eCAP2_IN_PWM2_OUT/PR1_PRU0_PRU_R30_3/PR1_PRU0_PRU_R31_3), C13 MCASP0_FSR (GPIO3_19/eQEP0B_IN/MCASP0_AXR3/MCASP1_FSX/EMU2/PR1_PRU0_PRU_R30_5/PR1_PRU0_PRU_R31_5), C15 SPI0_CS1 (GPIO0_6/UART3_RxD/eCAP1_IN_PWM1_OUT/MMC0_POW/XDMA_EVENT_INTR2/MMC0SDCD/EMU4), C16 I2C0_SCL (GPIO3_6/TIMER7/UART2_RTSn/eCAP1_IN_PWM1_OUT), C17 I2C0_SDA (GPIO3_5/TIMER4/UART2_CTSn/eCAP2_IN_PWM2_OUT), C18 ECAP0_IN_PWM0_OUT (GPIO0_7/UART3_TxD/SPI1_CS1/PR1_ECAP0_ECAP_CAPIN_APWM_O/SPI1_SCLK/MMC0_SDWP/XDMA_EVENT_INTR2), D12 MCASP0_AXR0 (GPIO3_16/EHRPWM0_TRIPZONE_IN/SPI1_D1/MMC2_SDCD/PR1_PRU0_PRU_R30_2/PR1_PRU0_PRU_R31_2), D13 MCASP0_AXR1 (GPIO3_20/eQEP0_INDEX/MCASP0_AXR0/EMU3/PR1_PRU0_PRU_R30_6/PR1_PRU0_PRU_R31_6), D15 UART1_TxD (GPIO0_15/MMC2_SDWP/DCAN1_Rx/I2C1_SCL/PR1_UART0_TxD/PR1_PRU0_PRU_R31_16), D16 UART1_RxD (GPIO0_14/MMC1_SDWP/DCAN1_Tx/I2C1_SDA/PR1_UART0_RxD/PR1_PRU1_PRU_R31_16), D17 UART1_RTSn (GPIO0_13/TIMER5/DCAN0_Rx/I2C2_SCL/PR1_UART0_RTSn/PR1_EDC_LATCH1_IN), D18 UART1_CTSn (GPIO0_12/TIMER6/DCAN0_Tx/I2C2_SDA/PR1_UART0_CTSn/PR1_EDC_LATCH0_IN), E15 UART0_RxD (GPIO1_10/SPI1_CS0/DCAN0_Tx/I2C2_SDA/eCAP2_IN_PWM2_OUT/PR1_PRU1_PRU_R30_14/PR1_PRU1_PRU_R31_14), E16 UART0_TxD (GPIO1_11/SPI1_CS1/DCAN0_Rx/I2C2_SCL/eCAP1_IN_PWM1_OUT/PR1_PRU1_PRU_R30_15/PR1_PRU1_PRU_R31_15), E17 UART0_RTSn (GPIO1_9/UART4_TxD/DCAN1_Rx/I2C1_SCL/SPI1_D1/SPI1_CS0/PR1_EDC_SYNC1_OUT), E18 UART0_CTSn (GPIO1_8/UART4_RxD/DCAN1_Tx/I2C1_SDA/SPI1_D0/TIMER7/PR1_EDC_SYNC0_OUT), F15 USB1_DRVVBUS, F16 USB0_DRVVBUS (GPIO0_18), H16 MII1_COL (GPIO3_0/RMII2_REFCLK/SPI1_SCLK/UART5_RXD/MCASP1_AXR2/MMC2_DAT3/MCASP0_AXR2), H17 MII1_CRS (GPIO3_1/RMII1_CRS_DV/SPI1_D0/IDC1_SDA/MCASP1_ACLKX/UART5_CTSN/UART2_RxD), H18 RMII1_REF_CLK (GPIO0_29/XDA_EVENT_INTR2/SPI1_CS0/UART5_TxD/MCASP1_AHCLKX), J15 MII1_RX_ER (GPIO3_2/RMII1_RxER/SPI1_D1/IDC1_SCL/MCASP1_FSX/UART5_RTSN/UART2_TxD), J16 MII1_TX_EN (GPIO3_3/RMII1_TxEN/RGMII1_TCTL/TIMER4/MCASP1_AXR0/eQEP0_INDEX/MMC2_CMD), J17 MII1_RX_DV (GPIO3_4/LCD_MEMORY_CLK/RGMII1_RCTL/UART5_TxD/MCASP1_ACLKX/MMC2_DAT0/MCASP0_ACLKR), J18 MII1_TXD3 (GPIO0_16/DCAN0_Tx/RGMII1_TD3/UART4_RxD/MCASP1_FSX/MMC2_DAT1/CASP0_FSR), K15 MII1_TXD2 (GPIO0_17/DCAN0_Rx/RGMII1_TD2/UART4_TxD/MCASP1_AXR0/MMC2_DAT2/CASP0_AHCLKX), K16 MII1_TXD1 (GPIO0_21/RMII_TxD1/RGMII1_TD1/MCASP1_FSR/MCASP1_AXR1/eQEP0A_IN/MMC1_CMD), K17 MII1_TXD0 (GPIO0_28/RMII_TxD0/RGMII1_TD0/MCASP1_AXR2/MCASP1_ACLKR/eQEP0B_IN/MMC1_CLK), K18 MII1_TX_CLK (GPIO3_9/UART2_RxD/RGMII1_TCLK/MMC0_DAT7/MMC1_DAT0/UART1_DCDn/MCASP0_ACLKX), L15 MII1_RXD1 (GPIO2_20/RMII1_RxD1/RGMII1_RD1/MCASP1_AXR3/MCASP1_FSR/eQEP0_STROBE/MMC2_CLK), L16 MII1_RXD2 (GPIO2_19/UART3_TxD/RGMII1_RD2/MMC0_DAT4/MMC1_DAT3/UART1_RIN/MCASP1_AXR1), L17 MII1_RXD3 (GPIO2_18/UART3_RxD/RGMII1_RD3/MMC0_DAT5/MMC1_DAT2/UART1_DTRn/MCASP0_AXR0), L18 MII1_RX_CLK (GPIO3_10/UART2_TxD/RGMII1_RCLK/MMC0_DAT6/MMC1_DAT1/UART1_DSRn/MCASP0_FSX/), M15 USB0_CE, M16 MII1_RXD0 (GPIO2_21/RMII1_RxD0/RGMII1_RD0/MCASP1_AHCLKX/MCASP1_AHCLKR/MCASP1_ACLKR/MCASP0_AXR3), M17 MDIO (GPIO0_0/TIMER6/UART5_RxD/UART3_CTSN/MMC0_SDCD/MMC1_CMD/MMC2_CMD), M18 MDC (GPIO0_1/TIMER5/UART5_TxD/UART3_RTSN/MMC0_SDWP/MMC1_CLK/MMC2_CLK), N17 USB0_DP, N18 USB0_DM, P15 USB0_VBUS, P16 USB0_ID, P17 USB1_ID, P18 USB1_CE, R1 LCD_DATA0 (GPIO2_6/GPMC_A0/PR1_MII1_MT0_CLK/EHRPWM2A/PR1_PRU1_PRU_R30_0/PR1_PRU1_PRU_R31_0), R2 LCD_DATA1 (GPIO2_7/GPMC_A1/PR1_MII0_TxEN/EHRPWM2B/PR1_PRU1_PRU_R30_1/PR1_PRU1_PRU_R31_1), R3 LCD_DATA2 (GPIO2_8/GPMC_A2/PR1_MII0_TxD3/EHRPWM2_TRIPZONE_IN/PR1_PRU1_PRU_R30_2/PR1_PRU1_PRU_R31_2), R4 LCD_DATA3 (GPIO2_9/GPMC_A3/PR1_MII0_TxD2/EHRPWM0_SINCO/PR1_PRU1_PRU_R30_3/PR1_PRU1_PRU_R31_3), R5 LCD_HSYNC (GPIO2_23/GPMC_A9/GPMC_A2/PR1_EDIO_DATA_IN3/PR1_EDIO_DATA_OUT3/PR1_PRU1_PRU_R30_9/PR1_PRU1_PRU_R31_9), R6 LCD_AC_BIAS_EN (GPIO2_25/GPMC_A11/PR1_MII1_RCS/PR1_EDIO_DATA_IN5/PR1_EDIO_DATA_OUT5/PR1_PRU1_PRU_R30_11/PR1_PRU1_PRU_R31_11), R17 USB1_DP, R18 USB1_DM, T1 LCD_DATA4 (GPIO2_10/GPMC_A4/PR1_MII0_TxD1/eQEP2A_IN/PR1_PRU1_PRU_R30_4/PR1_PRU1_PRU_R31_4), T2 LCD_DATA5 (GPIO2_11/GPMC_A5/PR1_MII0_TxD0/eQEP2B_IN/PR1_PRU1_PRU_R30_5/PR1_PRU1_PRU_R31_5), T3 LCD_DATA6 (GPIO2_12/GPMC_A6/PR1_EDIO_DATA_IN6/eQEP2_INDEX/PR1_EDIO_DATA_OUT6/PR1_PRU1_PRU_R30_6/PR1_PRU1_PRU_R31_6), T4 LCD_DATA7 (GPIO2_13/GPMC_A7/PR1_EDIO_DATA_IN7/eQEP2_STROBE/PR1_EDIO_DATA_OUT7/PR1_PRU1_PRU_R30_7/PR1_PRU1_PRU_R31_7), T5 LCD_DATA15 (GPIO0_11/GPMC_A19/eQEP1_STROBE/MCASP0_AHCLKX/MCASP0_AXR3/PR1_MII0_RxDV/UART5_RTSN), T18 USB1_VBUS, U1 LCD_DATA8 (GPIO2_14/GPMC_A12/EHRPWM1_TRIPZONE_INPUT/MCASP0_ACLKX/UART5_TxD/PR1_MII0_RxD3/UART2_CTSN), U2 LCD_DATA9 (GPIO2_15/GPMC_A13/EHRPWM0_SINCO/MCASP0_FSX/UART5_RxD/PR1_MII0_RxD2/UART2_RTSN), U3 LCD_DATA10 (GPIO2_16/GPMC_A14/EHRPWM1A/MCASP0_AXR0/PR1_MII0_RxD1/UART3_CTSN), U4 LCD_DATA11 (GPIO2_17/GPMC_A15/EHRPWM1B/MCASP0_AHCLKR/MCASP0_AXR2/PR1_MII0_RxD0/UART3_RTSN), U5 LCD_VSYNC (GPIO2_22/GPMC_A8/GPMC_A1/PR1_EDIO_DATA_IN2/PR1_EDIO_DATA_OUT2/PR1_PRU1_PRU_R30_8/PR1_PRU1_PRU_R31_8), V2 LCD_DATA12 (GPIO0_8/GPMC_A16/eQEP1A_IN/MCASP0_ACLKR/MCASP0_AXR2/PR1_MII0_RxLINK/UART4_CTSN), V3 LCD_DATA13 (GPIO0_9/GPMC_A17/eQEP1B_IN/MCASP0_FSR/MCASP0_AXR3/PR1_MII0_RxER/UART4_RTSN), V4 LCD_DATA14 (GPIO0_10/GPMC_A18/eQEP1_INDEX/MCASP0_AXR1/UART5_RxD/PR1_MII0_MR0_CLK/UART5_CTSN), V5 LCD_PCLK (GPIO2_24/GPMC_A10/PR1_MII0_CRS/PR1_EDIO_DATA_IN4/PR1_EDIO_DATA_OUT4/PR1_PRU1_PRU_R30_10/PR1_PRU1_PRU_R31_10)

## AMP_CSh_AD8211
designator U?, comment AD8211
footprint SOT23-5
pins: 1 OUT (out), 2 GND (power), 3 Vin+ (in), 4 Vin- (in), 5 Vcc (power)

## AMP_CSh_AD8218BRMZ
designator U?, comment AD8218BRMZ
HelpURL: L:\Dev\Техническая документация\Усилители\ОУ для контроля тока\AD8218.pdf
footprint MSOP8
pins: 1 IN+ (in), 2 Vcc (power), 3 ENB (in), 4 GND (power), 5 OUT (out), 6 NC hidden, 7 REF (in), 8 IN- (in)

## AMP_CSh_INA181A4IDBV_K=200
designator U?, comment INA181A4IDBV
Gain (V/V): 200; HelpURL: L:\Dev\Техническая документация\Усилители\ОУ для контроля тока\ina181.pdf
footprint SOT23-6
pins: 1 Out (out), 2 - (power), 3 +Vin (in), 4 -Vin (in), 5 Ref (in), 6 + (power)

## AMP_CSh_INA240A2PW_K=50
designator U?, comment Name: INA240A2PW  (hidden comment: INA240A2PW, TI)
Gain (V/V): 50; ComMode: -4..80V; HelpURL: L:\Dev\Техническая документация\Усилители\ОУ для контроля тока\ina240.pdf
footprint TSSOP8
pins: 1 NC hidden, 2 IN+, 3 IN-, 4 GND (power), 5 V+ (power), 6 Ref2, 7 Ref1, 8 OUT
text: 3k; 150k; 50k; 125k

## AMP_CSh_INA240A4PW_K=200
designator U?, comment Name: INA240A4PW  (hidden comment: INA240A4PW, TI)
Gain (V/V): 200; ComMode: -4..80V; HelpURL: L:\Dev\Техническая документация\Усилители\ОУ для контроля тока\ina240.pdf
footprint TSSOP8
pins: 1 NC hidden, 2 IN+, 3 IN-, 4 GND (power), 5 V+ (power), 6 Ref2, 7 Ref1, 8 OUT
text: 3k; 150k; 50k; 125k

## AMP_diff_THS4521IDGK
designator U?, comment THS4521IDGK
HelpURL: L:\Dev\Техническая документация\Усилители\Дифференциальные\145MHZ_2.5..5.5V_35mA_THS452x.pdf
footprint VSSOP8(TI)
pins: 1 Vin- (in), 2 Vocm (in), 3 Vs+ (power), 4 Vout+ (out), 5 Vout- (out), 6 Vs- (power), 7 nPD (in), 8 Vin+ (in)
text: +Vs; -Vs

## AMP_diffc_AD8274ARMZ
designator U?, comment AD8274ARMZ
HelpURL: L:\Dev\Техническая документация\Усилители\Difference\AD8274_0.5_2.pdf
footprint MSOP8
pins: 1 Vref, 2 IN-, 3 IN+, 4 -V (power), 5 Sense, 6 Out (out), 7 +V (power), 8 NC hidden
text: 12k; 6k

## AMP_diffc_AD8274ARMZ_1
designator U?, comment AD8274ARMZ
HelpURL: L:\Dev\Техническая документация\Усилители\Difference\AD8274_0.5_2.pdf
footprint MSOP8
pins: 1 Vref, 2 IN-, 3 IN+, 4 -V (power), 5 Sense, 6 Out (out), 7 +V (power), 8 NC hidden
text: 6k; 12k

## AMP_diffc_AD8276ARMZ
designator U?, comment AD8276ARMZ
HelpURL: L:\Dev\Техническая документация\Усилители\Difference\AD8276_8277.pdf
footprint MSOP8
pins: 1 Vref, 2 IN- (in), 3 IN+ (in), 4 -V (power), 5 Sense, 6 Out (out), 7 +V (power), 8 NC hidden
text: 40k

## AMP_diffc_AD8276ARMZ_1
designator U?, comment AD8276ARMZ
HelpURL: L:\Dev\Техническая документация\Усилители\Difference\AD8276_8277.pdf
footprint MSOP8
pins: 1 Vref, 2 IN- (in), 3 IN+ (in), 4 -V (power), 5 Sense, 6 Out (out), 7 +V (power), 8 NC hidden
text: 40k

## AMP_diffc_AD8276ARMZ_2
designator U?, comment AD8276ARMZ
HelpURL: L:\Dev\Техническая документация\Усилители\Difference\AD8276_8277.pdf
footprint MSOP8
pins: 1 Vref, 2 IN-, 3 IN+, 4 -V (power), 5 Sense, 6 Out (out), 7 +V (power), 8 NC hidden
text: 40k

## AMP_diffc_AD8276BRMZ
designator U?, comment AD8276BRMZ
HelpURL: L:\Dev\Техническая документация\Усилители\Difference\AD8276_8277.pdf
footprint MSOP8
pins: 1 Vref, 2 IN- (in), 3 IN+ (in), 4 -V (power), 5 Sense, 6 Out (out), 7 +V (power), 8 NC hidden
text: 40k

## AMP_diffc_AD8276BRMZ_1
designator U?, comment AD8276BRMZ
HelpURL: L:\Dev\Техническая документация\Усилители\Difference\AD8276_8277.pdf
footprint MSOP8
pins: 1 Vref, 2 IN- (in), 3 IN+ (in), 4 -V (power), 5 Sense, 6 Out (out), 7 +V (power), 8 NC
text: 40k

## AMP_diffc_AD8278BRMZ
designator U?, comment AD8278BRMZ
HelpURL: L:\Dev\Техническая документация\Усилители\Difference\AD8278_8279.pdf
footprint MSOP8
pins: 1 Vref, 2 IN-, 3 IN+, 4 -V (power), 5 Sense, 6 Out (out), 7 +V (power), 8 NC hidden
text: 40k; 20k

## AMP_diffc_AD8278BRMZ_1
designator U?, comment AD8278BRMZ
HelpURL: L:\Dev\Техническая документация\Усилители\Difference\AD8278_8279.pdf
footprint MSOP8
pins: 1 Vref, 2 IN-, 3 IN+, 4 -V (power), 5 Sense, 6 Out (out), 7 +V (power), 8 NC hidden
text: 20k; 40k

## AMP_diffc_INA132U
designator U?, comment INA132U
HelpURL: L:\Dev\Техническая документация\Усилители\Difference\ina132.pdf
footprint SO8
pins: 1 Vref1, 2 IN- (in), 3 IN+ (in), 4 - (power), 5 Sense, 6 Out (out), 7 + (power), 8 NC hidden
text: 40k

## AMP_diffc_INA132U_1
designator U?, comment INA132U
HelpURL: L:\Dev\Техническая документация\Усилители\Difference\ina132.pdf
footprint SO8
pins: 1 Vref1, 2 IN- (in), 3 IN+ (in), 4 - (power), 5 Sense, 6 Out (out), 7 + (power), 8 NC hidden
text: 40k

## AMP_diffc_INA134U
designator U?, comment INA134U
footprint SO8
pins: 1 Vref1, 2 IN- (in), 3 IN+ (in), 4 - (power), 5 Sense, 6 Out (out), 7 + (power), 8 NC hidden
text: 25k

## AMP_diffc_INA143U_5-36V
designator U?, comment INA143U
HelpURL: L:\Dev\Техническая документация\Усилители\Difference\INA143.pdf
footprint SO8
pins: 1 Vref1, 2 IN- (in), 3 IN+ (in), 4 - (power), 5 Sense, 6 Out (out), 7 + (power), 8 NC hidden
text: 10k; 100k

## AMP_diffc_INA148UA
designator U?, comment INA148UA
HelpURL: L:\Dev\Техническая документация\Усилители\Difference\ina148.pdf
footprint SO8
pins: 1 Vref1, 2 IN- (in), 3 IN+ (in), 4 - (power), 5 Sense hidden, 6 Out (out), 7 + (power), 8 NC hidden
text: 1M; 50k; 2.7k; 52.6k

## AMP_diffc_INA152
designator U?, comment INA152EA
HelpURL: L:\Dev\Техническая документация\Усилители\Difference\ina152.pdf
footprint VSSOP8(TI)
pins: 1 Vref1, 2 IN- (in), 3 IN+ (in), 4 - (power), 5 Sense, 6 Out (out), 7 + (power), 8 NC hidden
text: 40k

## AMP_diffc_INA152_1
designator U?, comment INA152EA
HelpURL: L:\Dev\Техническая документация\Усилители\Difference\ina152.pdf
footprint VSSOP8(TI)
pins: 1 Vref1, 2 IN- (in), 3 IN+ (in), 4 - (power), 5 Sense, 6 Out (out), 7 + (power), 8 NC hidden
text: 40k

## AMP_diffc_INA152_2
designator U?, comment INA152EA
HelpURL: L:\Dev\Техническая документация\Усилители\Difference\ina152.pdf
footprint VSSOP8(TI)
pins: 1 Vref1, 2 IN- (in), 3 IN+ (in), 4 - (power), 5 Sense, 6 Out (out), 7 + (power), 8 NC hidden
text: 40k

## AMP_diffc_SSM2141SZ
designator U?, comment SSM2141SZ
footprint SO8
pins: 1 Vref, 2 IN- (in), 3 IN+ (in), 4 -V (power), 5 Sense, 6 Out (out), 7 +V (power), 8 NC hidden
text: 25k

## AMP_diffc_SSM2143SZ
designator U?, comment SSM2143SZ
HelpURL: L:\Dev\Техническая документация\Усилители\Difference\SSM2143.pdf
footprint SO8
pins: 1 Vref, 2 IN- (in), 3 IN+ (in), 4 -V (power), 5 Sense, 6 Out (out), 7 +V (power), 8 NC hidden
text: 12k; 6k

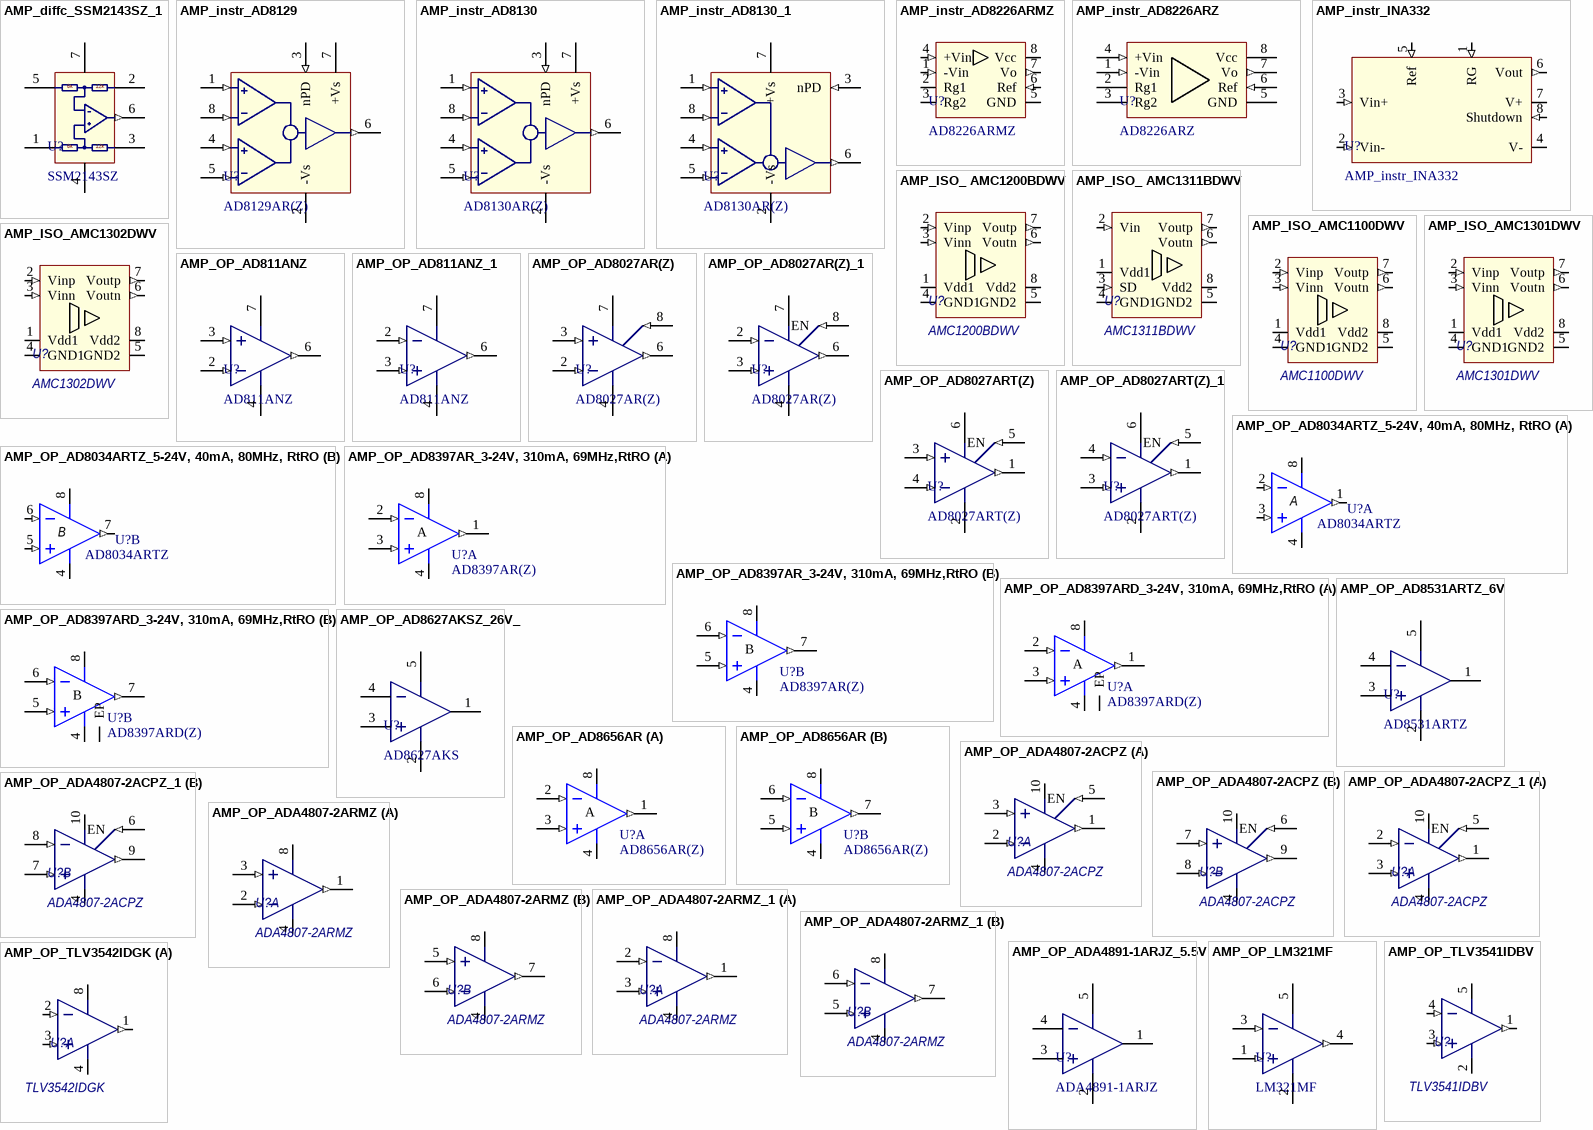
[diagram p5: symbols AMP_diffc_SSM2143SZ_1 to AMP_OP_TLV3542IDGK]

## AMP_diffc_SSM2143SZ_1
designator U?, comment SSM2143SZ
HelpURL: L:\Dev\Техническая документация\Усилители\Difference\SSM2143.pdf
footprint SO8
pins: 1 Vref, 2 IN-, 3 IN+, 4 -V (power), 5 Sense, 6 Out (out), 7 +V (power), 8 NC hidden
text: 6k; 12k

## AMP_instr_AD8129
designator U?, comment AD8129AR(Z)
HelpURL: L:\Dev\Техническая документация\Усилители\Инструментальные усилители\ВЧ\AD8129(30).pdf
footprint SO8
pins: 1 +IN (in), 2 -Vs (power), 3 nPD (in), 4 REF (in), 5 FB (in), 6 OUT (out), 7 +Vs (power), 8 -IN (in)

## AMP_instr_AD8130
designator U?, comment AD8130AR(Z)
HelpURL: L:\Dev\Техническая документация\Усилители\Инструментальные усилители\ВЧ\AD8129(30).pdf
footprint SO8
pins: 1 +IN (in), 2 -Vs (power), 3 nPD (in), 4 REF (in), 5 FB (in), 6 OUT (out), 7 +Vs (power), 8 -IN (in)

## AMP_instr_AD8130_1
designator U?, comment AD8130AR(Z)
HelpURL: L:\Dev\Техническая документация\Усилители\Инструментальные усилители\ВЧ\AD8129(30).pdf
footprint SO8
pins: 1 +IN (in), 2 -Vs (power), 3 nPD (in), 4 REF (in), 5 FB (in), 6 OUT (out), 7 +Vs (power), 8 -IN (in)

## AMP_instr_AD8226ARMZ
designator U?, comment AD8226ARMZ
HelpURL: L:\Dev\Техническая документация\Усилители\Инструментальные усилители\AD8226.pdf
footprint MSOP8
pins: 1 -Vin (in), 2 Rg1, 3 Rg2, 4 +Vin (in), 5 GND (power), 6 Ref (in), 7 Vo (out), 8 Vcc (power)

## AMP_instr_AD8226ARZ
designator U?, comment AD8226ARZ
HelpURL: L:\Dev\Техническая документация\Усилители\Инструментальные усилители\AD8226.pdf
footprint SO8
pins: 1 -Vin (in), 2 Rg1, 3 Rg2, 4 +Vin (in), 5 GND (power), 6 Ref (in), 7 Vo (out), 8 Vcc (power)

## AMP_instr_INA332
designator U?
footprint MSOP8
pins: 1 RG (in), 2 Vin- (in), 3 Vin+ (in), 4 V- (power), 5 Ref (in), 6 Vout (out), 7 V+ (power), 8 Shutdown (in)

## AMP_ISO_ AMC1200BDWV
designator U?, comment AMC1200BDWV
Vin_p-Vin_n: +-250mV; Gain: 8; HelpURL: L:\Dev\Техническая документация\Усилители\Изолированные\TI\amc1200.pdf; Price, $: 4
footprint SO8-10.5-11.5mmx6.3mm
pins: 1 Vdd1 (power), 2 Vinp (in), 3 Vinn (in), 4 GND1 (power), 5 GND2 (power), 6 Voutn (out), 7 Voutp (out), 8 Vdd2 (power)

## AMP_ISO_ AMC1311BDWV
designator U?, comment AMC1311BDWV
Vin_max: 2V; Gain: 1; HelpURL: L:\Dev\Техническая документация\Усилители\Изолированные\TI\amc1311.pdf; Price, $: 5.2
footprint SO8-10.5-11.5mmx6.3mm
pins: 1 Vdd1 (power), 2 Vin (in), 3 SD (in), 4 GND1 (power), 5 GND2 (power), 6 Voutn (out), 7 Voutp (out), 8 Vdd2 (power)

## AMP_ISO_AMC1100DWV
designator U?, comment AMC1100DWV
Vin_p-Vin_n: +-250mV; Gain: 8; HelpURL: L:\Dev\Техническая документация\Усилители\Изолированные\TI\amc1301.pdf; Price, $: 5.5
footprint SO8-10.5-11.5mmx6.3mm
pins: 1 Vdd1 (power), 2 Vinp (in), 3 Vinn (in), 4 GND1 (power), 5 GND2 (power), 6 Voutn (out), 7 Voutp (out), 8 Vdd2 (power)

## AMP_ISO_AMC1301DWV
designator U?, comment AMC1301DWV
Vin_p-Vin_n: +-250mV; Gain: 8.2; HelpURL: L:\Dev\Техническая документация\Усилители\Изолированные\TI\amc1301.pdf; Price, $: 5.5
footprint SO8-10.5-11.5mmx6.3mm
pins: 1 Vdd1 (power), 2 Vinp (in), 3 Vinn (in), 4 GND1 (power), 5 GND2 (power), 6 Voutn (out), 7 Voutp (out), 8 Vdd2 (power)

## AMP_ISO_AMC1302DWV
designator U?, comment AMC1302DWV
Vin_p-Vin_n: +-50mV; Gain: 41; HelpURL: L:\Dev\Техническая документация\Усилители\Изолированные\TI\amc1302.pdf; Price, $: 5.5
footprint SO8-10.5-11.5mmx6.3mm
pins: 1 Vdd1 (power), 2 Vinp (in), 3 Vinn (in), 4 GND1 (power), 5 GND2 (power), 6 Voutn (out), 7 Voutp (out), 8 Vdd2 (power)

## AMP_OP_AD811ANZ
designator U?, comment AD811ANZ
5-36V, 100mA, 40MHz Amplifier; HelpURL: L:\Dev\Техническая документация\Усилители\Операционные усилители\High current\AD811.pdf
footprint DIP8
pins: 2 -IN (in), 3 +IN (in), 4 Vss (power), 6 OUT (out), 7 Vcc (power)

## AMP_OP_AD811ANZ_1
designator U?, comment AD811ANZ
5-36V, 100mA, 40MHz Amplifier; HelpURL: L:\Dev\Техническая документация\Усилители\Операционные усилители\High current\AD811.pdf
footprint DIP8
pins: 2 -IN (in), 3 +IN (in), 4 Vss (power), 6 OUT (out), 7 Vcc (power)

## AMP_OP_AD8027AR(Z)
designator U?, comment AD8027AR(Z)
footprint SO8
pins: 2 -IN (in), 3 +IN (in), 4 Vss (power), 6 OUT (out), 7 Vcc (power), 8 EN (in)

## AMP_OP_AD8027AR(Z)_1
designator U?, comment AD8027AR(Z)
footprint SO8
pins: 2 -IN (in), 3 +IN (in), 4 Vss (power), 6 OUT (out), 7 Vcc (power), 8 EN (in)

## AMP_OP_AD8027ART(Z)
designator U?, comment AD8027ART(Z)
HelpURL: L:\Dev\Техническая документация\Усилители\Прецизионные\RailtoRail\AD8027_8028.pdf
footprint SOT23-6
pins: 1 OUT (out), 2 Vss (power), 3 +IN (in), 4 -IN (in), 5 EN (in), 6 Vcc (power)

## AMP_OP_AD8027ART(Z)_1
designator U?, comment AD8027ART(Z)
HelpURL: L:\Dev\Техническая документация\Усилители\Прецизионные\RailtoRail\AD8027_8028.pdf
footprint SOT23-6
pins: 1 OUT (out), 2 Vss (power), 3 +IN (in), 4 -IN (in), 5 EN (in), 6 Vcc (power)

## AMP_OP_AD8034ARTZ_5-24V, 40mA, 80MHz, RtRO
designator U?, comment AD8034ARTZ
5-24V, 40mA, 80MHz, RtRO; HelpURL: L:\Dev\Техническая документация\Усилители\Операционные усилители\Высокоскоростные\AD8033_8034.pdf
footprint SOT23-8
3D model Q-8 (DIP; 8 Leads; Row Spacing 7.62 mm; Pitch 2.54 mm)
pins on every part: 4 V- (power), 8 V+ (power)
part A pins: 1 OUT (out), 2 IN- (in), 3 IN+ (in)
part B pins: 5 IN+ (in), 6 IN- (in), 7 OUT (out)
part A text: A
part B text: B

## AMP_OP_AD8397AR_3-24V, 310mA, 69MHz,RtRO
designator U?, comment AD8397AR(Z)
3-24V, 310mA, 69MHz Rail-to-Rail O Amplifier; ComponentLink1Description: Manufacturer Link; ComponentLink1URL: www.analog.com; ComponentLink2Description: Datasheet; ComponentLink2URL: http://www.analog.com/media/en/technical-documentation/data-sheets/AD8655_8656.pdf; HelpURL: L:\Dev\Техническая документация\Усилители\Операционные усилители\High current\AD8397.pdf
footprint SO8
pins on every part: 4 V- (power), 8 V+ (power)
part A pins: 1 OUT (out), 2 IN- (in), 3 IN+ (in)
part B pins: 5 IN+ (in), 6 IN- (in), 7 OUT (out)
part A text: A
part B text: B

## AMP_OP_AD8397ARD_3-24V, 310mA, 69MHz,RtRO
designator U?, comment AD8397ARD(Z)
3-24V, 310mA, 69MHz Rail-to-Rail O Amplifier; ComponentLink1Description: Manufacturer Link; ComponentLink1URL: www.analog.com; HelpURL: L:\Dev\Техническая документация\Усилители\Операционные усилители\High current\AD8397.pdf
footprint SO8_power
pins on every part: 4 V- (power), 8 V+ (power)
part A pins: 0 EP (power), 1 OUT (out), 2 IN- (in), 3 IN+ (in)
part B pins: 0 EP (power), 5 IN+ (in), 6 IN- (in), 7 OUT (out)
part A text: A
part B text: B

## AMP_OP_AD8531ARTZ_6V
designator U?, comment AD8531ARTZ
IC; HelpURL: L:\Dev\Техническая документация\Усилители\Операционные усилители\High current\AD8531_8532_8534.pdf
footprint SOT23-5
pins: 1 OUT (power), 2 Vss (power), 3 +IN (power), 4 -IN (power), 5 Vcc (power)

## AMP_OP_AD8627AKSZ_26V_
designator U?, comment AD8627AKS
IC
footprint SC-70-5
pins: 1 OUT (power), 2 Vss (power), 3 +IN (power), 4 -IN (power), 5 Vcc (power)

## AMP_OP_AD8656AR
designator U?, comment AD8656AR(Z)
2.7-5.5V, 220mA, 28MHz Rail-to-Rail I/O Amplifier; ComponentLink1Description: Manufacturer Link; ComponentLink1URL: www.analog.com; ComponentLink2Description: Datasheet; ComponentLink2URL: http://www.analog.com/media/en/technical-documentation/data-sheets/AD8655_8656.pdf; HelpURL: L:\Dev\Техническая документация\Усилители\Малошумящие\AD8655_8656.pdf
footprint SO8
pins on every part: 4 V- (power), 8 V+ (power)
part A pins: 1 OUT (out), 2 IN- (in), 3 IN+ (in)
part B pins: 5 IN+ (in), 6 IN- (in), 7 OUT (out)
part A text: A
part B text: B

## AMP_OP_ADA4807-2ACPZ
designator U?, comment ADA4807-2ACPZ
2.7-11V, 50mA, 180MHz, R-R; HelpURL: L:\Dev\Техническая документация\Усилители\Операционные усилители\Высокоскоростные\ADA4807-1_4807-2_4807-4.pdf
part A pins: 1 OUT (out), 2 -IN (in), 3 +IN (in), 4 Vss (power), 5 EN (in), 10 Vcc (power)
part B pins: 4 Vss (power), 6 EN (in), 7 +IN (in), 8 -IN (in), 9 OUT (out), 10 Vcc (power)

## AMP_OP_ADA4807-2ACPZ_1
designator U?, comment ADA4807-2ACPZ
2.7-11V, 50mA, 180MHz, R-R; HelpURL: L:\Dev\Техническая документация\Усилители\Операционные усилители\Высокоскоростные\ADA4807-1_4807-2_4807-4.pdf
part A pins: 1 OUT (out), 2 -IN (in), 3 +IN (in), 4 Vss (power), 5 EN (in), 10 Vcc (power)
part B pins: 4 Vss (power), 6 EN (in), 7 +IN (in), 8 -IN (in), 9 OUT (out), 10 Vcc (power)

## AMP_OP_ADA4807-2ARMZ
designator U?, comment ADA4807-2ARMZ
2.7-11V, 50mA, 180MHz, R-R; HelpURL: L:\Dev\Техническая документация\Усилители\Операционные усилители\Высокоскоростные\ADA4807-1_4807-2_4807-4.pdf
footprint MSOP8
part A pins: 1 OUT (out), 2 -IN (in), 3 +IN (in), 4 Vss (power), 8 Vcc (power)
part B pins: 4 Vss (power), 5 +IN (in), 6 -IN (in), 7 OUT (out), 8 Vcc (power)